# Altium integrated library Microchip PIC24F.IntLib: 529 symbols (part 6 of 32)
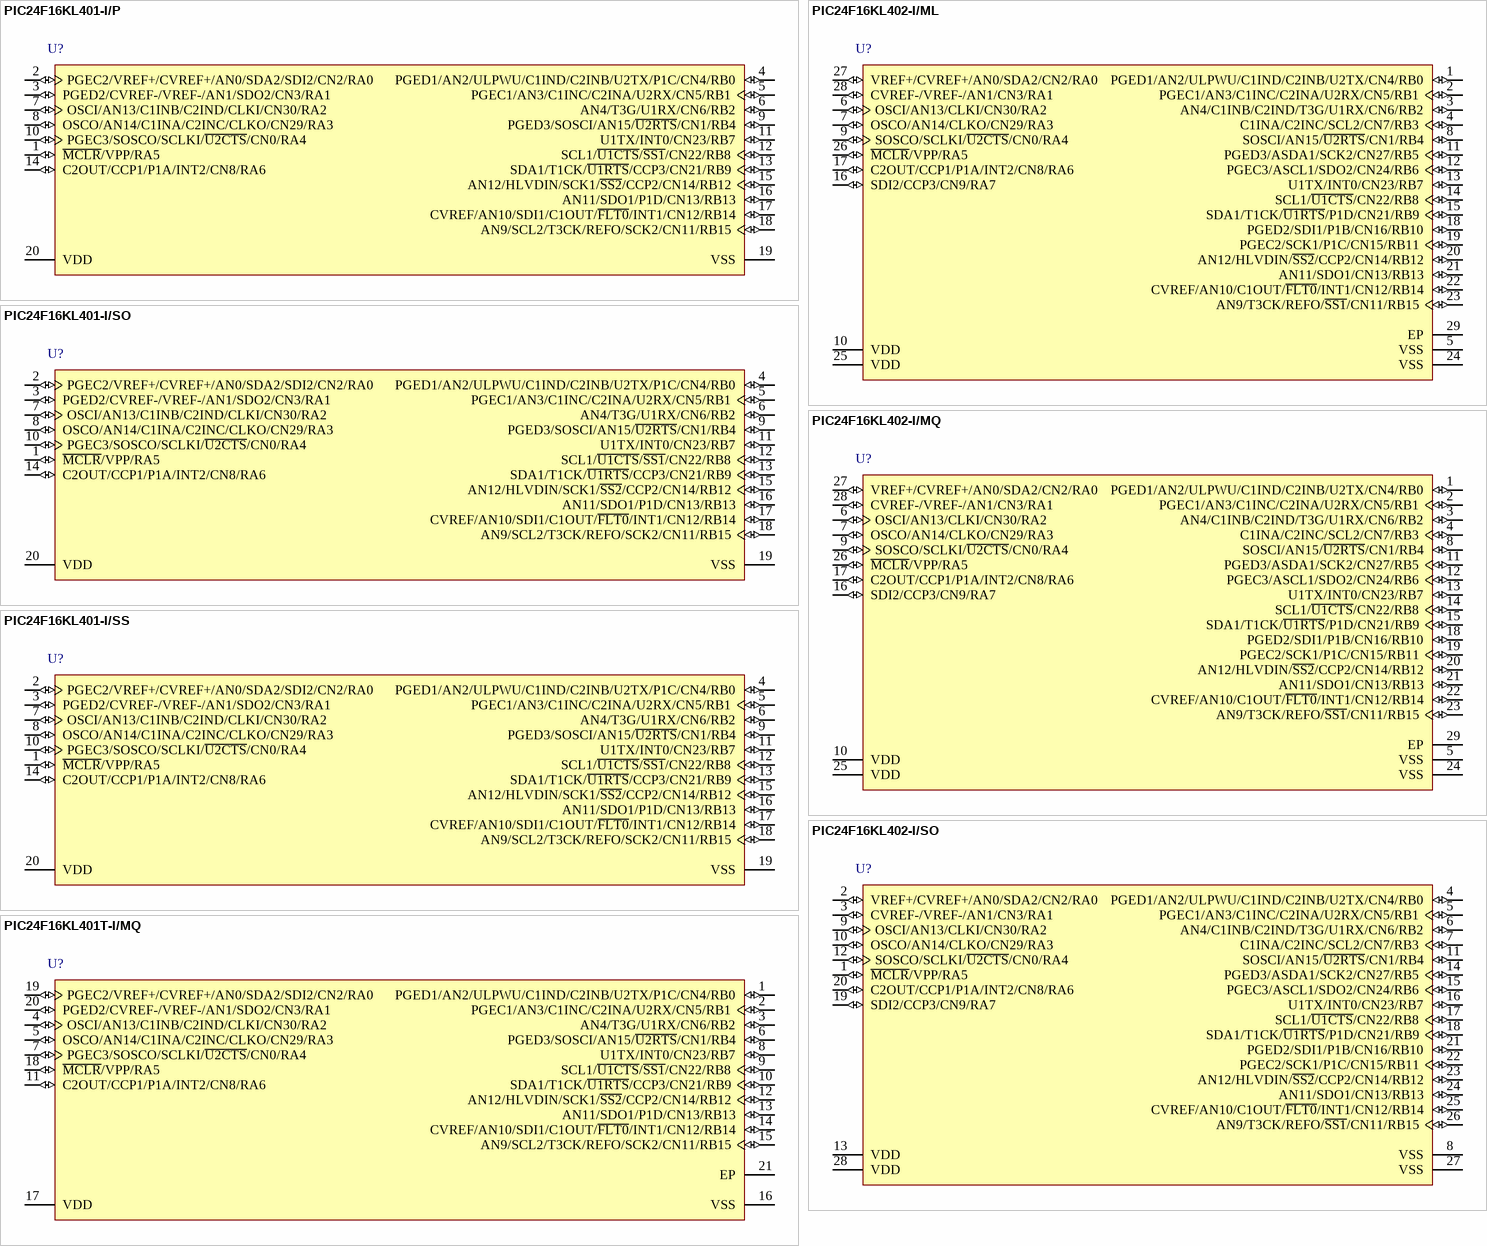
[diagram p127: symbols PIC24F16KL401-I/P to PIC24F16KL402-I/SO]

## PIC24F16KL401-I/SS
designator U?
Low-Cost General Purpose 16-Bit Flash Microcontroller with nanoWatt XLP Technology, 16 MIPS, 18 I/O, -40 to 85 degC, 20-pin SSOP (SS20), Tube; Manufacturer: Microchip; PartNumber: PIC24F16KL401-I/SS; DatasheetVersion: Rev. B; PackageVersion: C04-072B; PackageReference: SSOP-SS20; PackageDescription: 20-Lead Plastic Shrink Small Outline, 5.3 x 7.2 mm Body, 0.65 mm Pitch; Supplier 1: Digi-Key; Supplier Part Number 1: PIC24F16KL401-I/SS-ND; Supplier 2: Newark; Supplier Part Number 2: 64T1128; Supplier 3: Mouser; Supplier Part Number 3: 579-PIC24F16KL401ISS; Mounting Technology: Surface Mount; ComponentLink1Description: Manufacturer URL; ComponentLink1URL: http://www.microchip.com; ComponentLink2Description: Datasheet; ComponentLink2URL: http://ww1.microchip.com/downloads/en/DeviceDoc/31037b.pdf; ComponentLink3Description: Package Specification; ComponentLink3URL: http://www.microchip.com/stellent/groups/techpub_sg/documents/packagingspec/en012702.pdf; ComponentLink4Description: Product URL; ComponentLink4URL: http://www.microchip.com/PIC24F16KL401
footprint MCHP-SSOP-SS20_N (SOP, 20-Leads, Body 7.2x5.3mm, Pitch 0.65mm, IPC Medium Density)
footprint MCHP-SSOP-SS20_L (SOP, 20-Leads, Body 7.2x5.3mm, Pitch 0.65mm, IPC High Density)
footprint MCHP-SSOP-SS20_M (SOP, 20-Leads, Body 7.2x5.3mm, Pitch 0.65mm, IPC Low Density)
pins: 1 ~{MCLR}/VPP/RA5 (io), 2 PGEC2/VREF+/CVREF+/AN0/SDA2/SDI2/CN2/RA0 (io), 3 PGED2/CVREF-/VREF-/AN1/SDO2/CN3/RA1 (io), 4 PGED1/AN2/ULPWU/C1IND/C2INB/U2TX/P1C/CN4/RB0 (io), 5 PGEC1/AN3/C1INC/C2INA/U2RX/CN5/RB1 (io), 6 AN4/T3G/U1RX/CN6/RB2 (io), 7 OSCI/AN13/C1INB/C2IND/CLKI/CN30/RA2 (io), 8 OSCO/AN14/C1INA/C2INC/CLKO/CN29/RA3 (io), 9 PGED3/SOSCI/AN15/~{U2RTS}/CN1/RB4 (io), 10 PGEC3/SOSCO/SCLKI/~{U2CTS}/CN0/RA4 (io), 11 U1TX/INT0/CN23/RB7 (io), 12 SCL1/~{U1CTS}/~{SS1}/CN22/RB8 (io), 13 SDA1/T1CK/~{U1RTS}/CCP3/CN21/RB9 (io), 14 C2OUT/CCP1/P1A/INT2/CN8/RA6 (io), 15 AN12/HLVDIN/SCK1/~{SS2}/CCP2/CN14/RB12 (io), 16 AN11/SDO1/P1D/CN13/RB13 (io), 17 CVREF/AN10/SDI1/C1OUT/~{FLT0}/INT1/CN12/RB14 (io), 18 AN9/SCL2/T3CK/REFO/SCK2/CN11/RB15 (io), 19 VSS (power) "Ground Reference for Logic and I/O Pins", 20 VDD (power) "Positive Supply for Peripheral Digital Logic and I/O Pins"

## PIC24F16KL401T-I/MQ
designator U?
Low-Cost General Purpose 16-Bit Flash Microcontroller with nanoWatt XLP Technology, 16 MIPS, 18 I/O, -40 to 85 degC, 20-pin QFN (MQ20), Tape and Reel; Manufacturer: Microchip; PartNumber: PIC24F16KL401T-I/MQ; DatasheetVersion: Rev. B; PackageVersion: C04-139B; PackageReference: QFN-MQ20; PackageDescription: 20-Lead Plastic Quad Flat, No Lead Package, 5 x 5 mm Body, 0.65 mm Pitch; Supplier 1: Digi-Key; Supplier Part Number 1: PIC24F16KL401T-I/MQ-ND; Supplier 2: Mouser; Supplier Part Number 2: 579-PIC24F16K401TIMQ; Mounting Technology: Surface Mount; ComponentLink1Description: Manufacturer URL; ComponentLink1URL: http://www.microchip.com; ComponentLink2Description: Datasheet; ComponentLink2URL: http://ww1.microchip.com/downloads/en/DeviceDoc/31037b.pdf; ComponentLink3Description: Package Specification; ComponentLink3URL: http://www.microchip.com/stellent/groups/techpub_sg/documents/packagingspec/en012702.pdf; ComponentLink4Description: Product URL; ComponentLink4URL: http://www.microchip.com/PIC24F16KL401
footprint MCHP-QFN-MQ20_N (QFN, 20-Leads, Body 5x5mm, Pitch 0.65mm, Thermal Pad 3.25x3.25mm, IPC Medium Density)
footprint MCHP-QFN-MQ20_L (QFN, 20-Leads, Body 5x5mm, Pitch 0.65mm, Thermal Pad 3.25x3.25mm, IPC High Density)
footprint MCHP-QFN-MQ20_M (QFN, 20-Leads, Body 5x5mm, Pitch 0.65mm, Thermal Pad 3.25x3.25mm, IPC Low Density)
pins: 1 PGED1/AN2/ULPWU/C1IND/C2INB/U2TX/P1C/CN4/RB0 (io), 2 PGEC1/AN3/C1INC/C2INA/U2RX/CN5/RB1 (io), 3 AN4/T3G/U1RX/CN6/RB2 (io), 4 OSCI/AN13/C1INB/C2IND/CLKI/CN30/RA2 (io), 5 OSCO/AN14/C1INA/C2INC/CLKO/CN29/RA3 (io), 6 PGED3/SOSCI/AN15/~{U2RTS}/CN1/RB4 (io), 7 PGEC3/SOSCO/SCLKI/~{U2CTS}/CN0/RA4 (io), 8 U1TX/INT0/CN23/RB7 (io), 9 SCL1/~{U1CTS}/~{SS1}/CN22/RB8 (io), 10 SDA1/T1CK/~{U1RTS}/CCP3/CN21/RB9 (io), 11 C2OUT/CCP1/P1A/INT2/CN8/RA6 (io), 12 AN12/HLVDIN/SCK1/~{SS2}/CCP2/CN14/RB12 (io), 13 AN11/SDO1/P1D/CN13/RB13 (io), 14 CVREF/AN10/SDI1/C1OUT/~{FLT0}/INT1/CN12/RB14 (io), 15 AN9/SCL2/T3CK/REFO/SCK2/CN11/RB15 (io), 16 VSS (power) "Ground Reference for Logic and I/O Pins", 17 VDD (power) "Positive Supply for Peripheral Digital Logic and I/O Pins", 18 ~{MCLR}/VPP/RA5 (io), 19 PGEC2/VREF+/CVREF+/AN0/SDA2/SDI2/CN2/RA0 (io), 20 PGED2/CVREF-/VREF-/AN1/SDO2/CN3/RA1 (io), 21 EP (power) "EXPOSED PAD"

## PIC24F16KL402-I/ML
designator U?
Low-Cost General Purpose 16-Bit Flash Microcontroller with nanoWatt XLP Technology, 16 MIPS, 24 I/O, -40 to 85 degC, 28-pin QFN (ML28), Tube; Manufacturer: Microchip; PartNumber: PIC24F16KL402-I/ML; DatasheetVersion: Rev. B; PackageVersion: C04-105C; PackageReference: QFN-ML28; PackageDescription: 28-Lead Plastic Quad Flat, 6 x 6 mm Body, 0.65 mm Pitch; Supplier 1: Digi-Key; Supplier Part Number 1: PIC24F16KL402-I/ML-ND; Supplier 2: Newark; Supplier Part Number 2: 64T1132; Supplier 3: Mouser; Supplier Part Number 3: 579-PIC24F16KL402IML; Mounting Technology: Surface Mount; ComponentLink1Description: Manufacturer URL; ComponentLink1URL: http://www.microchip.com; ComponentLink2Description: Datasheet; ComponentLink2URL: http://ww1.microchip.com/downloads/en/DeviceDoc/31037b.pdf; ComponentLink3Description: Package Specification; ComponentLink3URL: http://www.microchip.com/stellent/groups/techpub_sg/documents/packagingspec/en012702.pdf; ComponentLink4Description: Product URL; ComponentLink4URL: http://www.microchip.com/PIC24F16KL402
footprint MCHP-QFN-ML28_N (QFN, 28-Leads, Body 6x6mm, Pitch 0.65mm, Thermal Pad 3.7x3.7mm, IPC Medium Density)
footprint MCHP-QFN-ML28_L (QFN, 28-Leads, Body 6x6mm, Pitch 0.65mm, Thermal Pad 3.7x3.7mm, IPC High Density)
footprint MCHP-QFN-ML28_M (QFN, 28-Leads, Body 6x6mm, Pitch 0.65mm, Thermal Pad 3.7x3.7mm, IPC Low Density)
pins: 1 PGED1/AN2/ULPWU/C1IND/C2INB/U2TX/CN4/RB0 (io), 2 PGEC1/AN3/C1INC/C2INA/U2RX/CN5/RB1 (io), 3 AN4/C1INB/C2IND/T3G/U1RX/CN6/RB2 (io), 4 C1INA/C2INC/SCL2/CN7/RB3 (io), 5 VSS (power) "Ground Reference for Logic and I/O Pins", 6 OSCI/AN13/CLKI/CN30/RA2 (io), 7 OSCO/AN14/CLKO/CN29/RA3 (io), 8 SOSCI/AN15/~{U2RTS}/CN1/RB4 (io), 9 SOSCO/SCLKI/~{U2CTS}/CN0/RA4 (io), 10 VDD (power) "Positive Supply for Peripheral Digital Logic and I/O Pins", 11 PGED3/ASDA1/SCK2/CN27/RB5 (io), 12 PGEC3/ASCL1/SDO2/CN24/RB6 (io), 13 U1TX/INT0/CN23/RB7 (io), 14 SCL1/~{U1CTS}/CN22/RB8 (io), 15 SDA1/T1CK/~{U1RTS}/P1D/CN21/RB9 (io), 16 SDI2/CCP3/CN9/RA7 (io), 17 C2OUT/CCP1/P1A/INT2/CN8/RA6 (io), 18 PGED2/SDI1/P1B/CN16/RB10 (io), 19 PGEC2/SCK1/P1C/CN15/RB11 (io), 20 AN12/HLVDIN/~{SS2}/CCP2/CN14/RB12 (io), 21 AN11/SDO1/CN13/RB13 (io), 22 CVREF/AN10/C1OUT/~{FLT0}/INT1/CN12/RB14 (io), 23 AN9/T3CK/REFO/~{SS1}/CN11/RB15 (io), 24 VSS (power) "Ground Reference for Logic and I/O Pins", 25 VDD (power) "Positive Supply for Peripheral Digital Logic and I/O Pins", 26 ~{MCLR}/VPP/RA5 (io), 27 VREF+/CVREF+/AN0/SDA2/CN2/RA0 (io), 28 CVREF-/VREF-/AN1/CN3/RA1 (io), 29 EP (power)

## PIC24F16KL402-I/MQ
designator U?
Low-Cost General Purpose 16-Bit Flash Microcontroller with nanoWatt XLP Technology, 16 MIPS, 24 I/O, -40 to 85 degC, 28-pin QFN (MQ28), Tube; Manufacturer: Microchip; PartNumber: PIC24F16KL402-I/MQ; DatasheetVersion: Rev. B; PackageVersion: C04-140B; PackageReference: QFN-MQ28; PackageDescription: 28-Lead Plastic Quad Flat, No Lead Package, 5 x 5 mm Body, 0.5 mm Pitch; Supplier 1: Digi-Key; Supplier Part Number 1: PIC24F16KL402-I/MQ-ND; Supplier 2: Newark; Supplier Part Number 2: 73T1331; Supplier 3: Mouser; Supplier Part Number 3: 579-PC24F16KL402IMQ; Mounting Technology: Surface Mount; ComponentLink1Description: Manufacturer URL; ComponentLink1URL: http://www.microchip.com; ComponentLink2Description: Datasheet; ComponentLink2URL: http://ww1.microchip.com/downloads/en/DeviceDoc/31037b.pdf; ComponentLink3Description: Package Specification; ComponentLink3URL: http://www.microchip.com/stellent/groups/techpub_sg/documents/packagingspec/en012702.pdf; ComponentLink4Description: Product URL; ComponentLink4URL: http://www.microchip.com/PIC24F16KL402
footprint MCHP-QFN-MQ28_N (QFN, 28-Leads, Body 5x5mm, Pitch 0.5mm, Thermal Pad 3.25x3.25mm, IPC Medium Density)
footprint MCHP-QFN-MQ28_L (QFN, 28-Leads, Body 5x5mm, Pitch 0.5mm, Thermal Pad 3.25x3.25mm, IPC High Density)
footprint MCHP-QFN-MQ28_M (QFN, 28-Leads, Body 5x5mm, Pitch 0.5mm, Thermal Pad 3.25x3.25mm, IPC Low Density)
pins: 1 PGED1/AN2/ULPWU/C1IND/C2INB/U2TX/CN4/RB0 (io), 2 PGEC1/AN3/C1INC/C2INA/U2RX/CN5/RB1 (io), 3 AN4/C1INB/C2IND/T3G/U1RX/CN6/RB2 (io), 4 C1INA/C2INC/SCL2/CN7/RB3 (io), 5 VSS (power) "Ground Reference for Logic and I/O Pins", 6 OSCI/AN13/CLKI/CN30/RA2 (io), 7 OSCO/AN14/CLKO/CN29/RA3 (io), 8 SOSCI/AN15/~{U2RTS}/CN1/RB4 (io), 9 SOSCO/SCLKI/~{U2CTS}/CN0/RA4 (io), 10 VDD (power) "Positive Supply for Peripheral Digital Logic and I/O Pins", 11 PGED3/ASDA1/SCK2/CN27/RB5 (io), 12 PGEC3/ASCL1/SDO2/CN24/RB6 (io), 13 U1TX/INT0/CN23/RB7 (io), 14 SCL1/~{U1CTS}/CN22/RB8 (io), 15 SDA1/T1CK/~{U1RTS}/P1D/CN21/RB9 (io), 16 SDI2/CCP3/CN9/RA7 (io), 17 C2OUT/CCP1/P1A/INT2/CN8/RA6 (io), 18 PGED2/SDI1/P1B/CN16/RB10 (io), 19 PGEC2/SCK1/P1C/CN15/RB11 (io), 20 AN12/HLVDIN/~{SS2}/CCP2/CN14/RB12 (io), 21 AN11/SDO1/CN13/RB13 (io), 22 CVREF/AN10/C1OUT/~{FLT0}/INT1/CN12/RB14 (io), 23 AN9/T3CK/REFO/~{SS1}/CN11/RB15 (io), 24 VSS (power) "Ground Reference for Logic and I/O Pins", 25 VDD (power) "Positive Supply for Peripheral Digital Logic and I/O Pins", 26 ~{MCLR}/VPP/RA5 (io), 27 VREF+/CVREF+/AN0/SDA2/CN2/RA0 (io), 28 CVREF-/VREF-/AN1/CN3/RA1 (io), 29 EP (power)

## PIC24F16KL402-I/SO
designator U?
Low-Cost General Purpose 16-Bit Flash Microcontroller with nanoWatt XLP Technology, 16 MIPS, 24 I/O, -40 to 85 degC, 28-pin SOIC (SO28), Tube; Manufacturer: Microchip; PartNumber: PIC24F16KL402-I/SO; DatasheetVersion: Rev. B; PackageVersion: C04-052C; PackageReference: SOIC-SO28; PackageDescription: 28-Lead Plastic Small Outline, 17.9 x 7.5 mm Body, 1.27 mm Pitch; Supplier 1: Digi-Key; Supplier Part Number 1: PIC24F16KL402-I/SO-ND; Supplier 2: Farnell; Supplier Part Number 2: 2079402; Supplier 3: Newark; Supplier Part Number 3: 64T1133; Supplier 4: Mouser; Supplier Part Number 4: 579-PIC24F16KL402ISO; Mounting Technology: Surface Mount; ComponentLink1Description: Manufacturer URL; ComponentLink1URL: http://www.microchip.com; ComponentLink2Description: Datasheet; ComponentLink2URL: http://ww1.microchip.com/downloads/en/DeviceDoc/31037b.pdf; ComponentLink3Description: Package Specification; ComponentLink3URL: http://www.microchip.com/stellent/groups/techpub_sg/documents/packagingspec/en012702.pdf; ComponentLink4Description: Product URL; ComponentLink4URL: http://www.microchip.com/PIC24F16KL402
footprint MCHP-SOIC-SO28_N (SOIC, 28-Leads, Body 17.9x7.5mm, Pitch 1.27mm, IPC Medium Density)
footprint MCHP-SOIC-SO28_L (SOIC, 28-Leads, Body 17.9x7.5mm, Pitch 1.27mm, IPC High Density)
footprint MCHP-SOIC-SO28_M (SOIC, 28-Leads, Body 17.9x7.5mm, Pitch 1.27mm, IPC Low Density)
pins: 1 ~{MCLR}/VPP/RA5 (io), 2 VREF+/CVREF+/AN0/SDA2/CN2/RA0 (io), 3 CVREF-/VREF-/AN1/CN3/RA1 (io), 4 PGED1/AN2/ULPWU/C1IND/C2INB/U2TX/CN4/RB0 (io), 5 PGEC1/AN3/C1INC/C2INA/U2RX/CN5/RB1 (io), 6 AN4/C1INB/C2IND/T3G/U1RX/CN6/RB2 (io), 7 C1INA/C2INC/SCL2/CN7/RB3 (io), 8 VSS (power) "Ground Reference for Logic and I/O Pins", 9 OSCI/AN13/CLKI/CN30/RA2 (io), 10 OSCO/AN14/CLKO/CN29/RA3 (io), 11 SOSCI/AN15/~{U2RTS}/CN1/RB4 (io), 12 SOSCO/SCLKI/~{U2CTS}/CN0/RA4 (io), 13 VDD (power) "Positive Supply for Peripheral Digital Logic and I/O Pins", 14 PGED3/ASDA1/SCK2/CN27/RB5 (io), 15 PGEC3/ASCL1/SDO2/CN24/RB6 (io), 16 U1TX/INT0/CN23/RB7 (io), 17 SCL1/~{U1CTS}/CN22/RB8 (io), 18 SDA1/T1CK/~{U1RTS}/P1D/CN21/RB9 (io), 19 SDI2/CCP3/CN9/RA7 (io), 20 C2OUT/CCP1/P1A/INT2/CN8/RA6 (io), 21 PGED2/SDI1/P1B/CN16/RB10 (io), 22 PGEC2/SCK1/P1C/CN15/RB11 (io), 23 AN12/HLVDIN/~{SS2}/CCP2/CN14/RB12 (io), 24 AN11/SDO1/CN13/RB13 (io), 25 CVREF/AN10/C1OUT/~{FLT0}/INT1/CN12/RB14 (io), 26 AN9/T3CK/REFO/~{SS1}/CN11/RB15 (io), 27 VSS (power) "Ground Reference for Logic and I/O Pins", 28 VDD (power) "Positive Supply for Peripheral Digital Logic and I/O Pins"

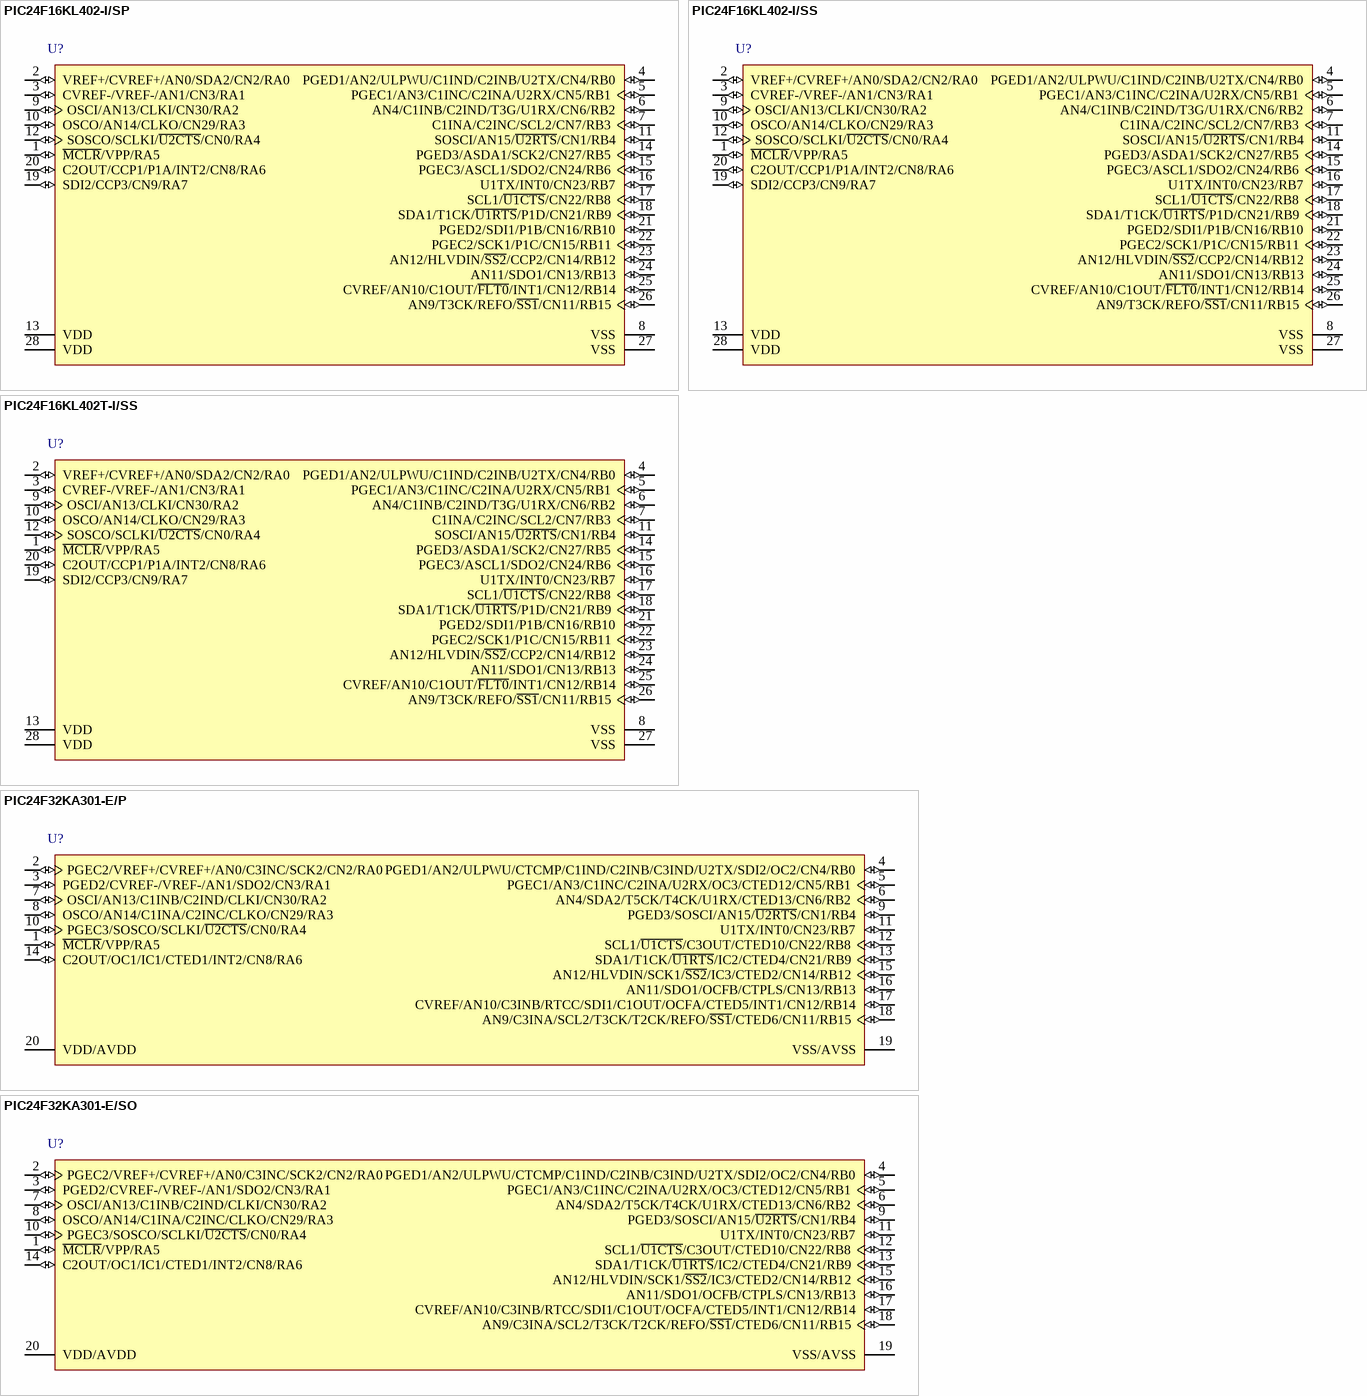
[diagram p16: symbols PIC24F16KL402-I/SP to PIC24F32KA301-E/SO]

## PIC24F16KL402-I/SP
designator U?
Low-Cost General Purpose 16-Bit Flash Microcontroller with nanoWatt XLP Technology, 16 MIPS, 24 I/O, -40 to 85 degC, 28-pin SPDIP (SP28), Tube; Manufacturer: Microchip; PartNumber: PIC24F16KL402-I/SP; DatasheetVersion: Rev. B; PackageVersion: C04-070B; PackageReference: SPDIP-SP28; PackageDescription: 28-Lead Plastic Dual In-Line, 34.86 x 6.79 mm Body, 2.54 mm Pitch; Supplier 1: Digi-Key; Supplier Part Number 1: PIC24F16KL402-I/SP-ND; Supplier 2: Farnell; Supplier Part Number 2: 2079403; Supplier 3: Newark; Supplier Part Number 3: 64T1134; Supplier 4: Mouser; Supplier Part Number 4: 579-PIC24F16KL402ISP; Mounting Technology: Through Hole; ComponentLink1Description: Manufacturer URL; ComponentLink1URL: http://www.microchip.com; ComponentLink2Description: Datasheet; ComponentLink2URL: http://ww1.microchip.com/downloads/en/DeviceDoc/31037b.pdf; ComponentLink3Description: Package Specification; ComponentLink3URL: http://www.microchip.com/stellent/groups/techpub_sg/documents/packagingspec/en012702.pdf; ComponentLink4Description: Product URL; ComponentLink4URL: http://www.microchip.com/PIC24F16KL402
footprint MCHP-SPDIP-SP28 (DIP, 28-Leads, Body 34.86x6.79mm, Pitch 2.54mm)
pins: 1 ~{MCLR}/VPP/RA5 (io), 2 VREF+/CVREF+/AN0/SDA2/CN2/RA0 (io), 3 CVREF-/VREF-/AN1/CN3/RA1 (io), 4 PGED1/AN2/ULPWU/C1IND/C2INB/U2TX/CN4/RB0 (io), 5 PGEC1/AN3/C1INC/C2INA/U2RX/CN5/RB1 (io), 6 AN4/C1INB/C2IND/T3G/U1RX/CN6/RB2 (io), 7 C1INA/C2INC/SCL2/CN7/RB3 (io), 8 VSS (power) "Ground Reference for Logic and I/O Pins", 9 OSCI/AN13/CLKI/CN30/RA2 (io), 10 OSCO/AN14/CLKO/CN29/RA3 (io), 11 SOSCI/AN15/~{U2RTS}/CN1/RB4 (io), 12 SOSCO/SCLKI/~{U2CTS}/CN0/RA4 (io), 13 VDD (power) "Positive Supply for Peripheral Digital Logic and I/O Pins", 14 PGED3/ASDA1/SCK2/CN27/RB5 (io), 15 PGEC3/ASCL1/SDO2/CN24/RB6 (io), 16 U1TX/INT0/CN23/RB7 (io), 17 SCL1/~{U1CTS}/CN22/RB8 (io), 18 SDA1/T1CK/~{U1RTS}/P1D/CN21/RB9 (io), 19 SDI2/CCP3/CN9/RA7 (io), 20 C2OUT/CCP1/P1A/INT2/CN8/RA6 (io), 21 PGED2/SDI1/P1B/CN16/RB10 (io), 22 PGEC2/SCK1/P1C/CN15/RB11 (io), 23 AN12/HLVDIN/~{SS2}/CCP2/CN14/RB12 (io), 24 AN11/SDO1/CN13/RB13 (io), 25 CVREF/AN10/C1OUT/~{FLT0}/INT1/CN12/RB14 (io), 26 AN9/T3CK/REFO/~{SS1}/CN11/RB15 (io), 27 VSS (power) "Ground Reference for Logic and I/O Pins", 28 VDD (power) "Positive Supply for Peripheral Digital Logic and I/O Pins"

## PIC24F16KL402-I/SS
designator U?
Low-Cost General Purpose 16-Bit Flash Microcontroller with nanoWatt XLP Technology, 16 MIPS, 24 I/O, -40 to 85 degC, 28-pin SSOP (SS28), Tube; Manufacturer: Microchip; PartNumber: PIC24F16KL402-I/SS; DatasheetVersion: Rev. B; PackageVersion: C04-073B; PackageReference: SSOP-SS28; PackageDescription: 28-Lead Plastic Shrink Small Outline, 10.2 x 5.3 mm Body, 0.65 mm Pitch; Supplier 1: Digi-Key; Supplier Part Number 1: PIC24F16KL402-I/SS-ND; Supplier 2: Farnell; Supplier Part Number 2: 2079404; Supplier 3: Newark; Supplier Part Number 3: 64T1135; Supplier 4: Mouser; Supplier Part Number 4: 579-PIC24F16KL402ISS; Mounting Technology: Surface Mount; ComponentLink1Description: Manufacturer URL; ComponentLink1URL: http://www.microchip.com; ComponentLink2Description: Datasheet; ComponentLink2URL: http://ww1.microchip.com/downloads/en/DeviceDoc/31037b.pdf; ComponentLink3Description: Package Specification; ComponentLink3URL: http://www.microchip.com/stellent/groups/techpub_sg/documents/packagingspec/en012702.pdf; ComponentLink4Description: Product URL; ComponentLink4URL: http://www.microchip.com/PIC24F16KL402
footprint MCHP-SSOP-SS28_N (SOP, 28-Leads, Body 10.2x5.3mm, Pitch 0.65mm, IPC Medium Density)
footprint MCHP-SSOP-SS28_L (SOP, 28-Leads, Body 10.2x5.3mm, Pitch 0.65mm, IPC High Density)
footprint MCHP-SSOP-SS28_M (SOP, 28-Leads, Body 10.2x5.3mm, Pitch 0.65mm, IPC Low Density)
pins: 1 ~{MCLR}/VPP/RA5 (io), 2 VREF+/CVREF+/AN0/SDA2/CN2/RA0 (io), 3 CVREF-/VREF-/AN1/CN3/RA1 (io), 4 PGED1/AN2/ULPWU/C1IND/C2INB/U2TX/CN4/RB0 (io), 5 PGEC1/AN3/C1INC/C2INA/U2RX/CN5/RB1 (io), 6 AN4/C1INB/C2IND/T3G/U1RX/CN6/RB2 (io), 7 C1INA/C2INC/SCL2/CN7/RB3 (io), 8 VSS (power) "Ground Reference for Logic and I/O Pins", 9 OSCI/AN13/CLKI/CN30/RA2 (io), 10 OSCO/AN14/CLKO/CN29/RA3 (io), 11 SOSCI/AN15/~{U2RTS}/CN1/RB4 (io), 12 SOSCO/SCLKI/~{U2CTS}/CN0/RA4 (io), 13 VDD (power) "Positive Supply for Peripheral Digital Logic and I/O Pins", 14 PGED3/ASDA1/SCK2/CN27/RB5 (io), 15 PGEC3/ASCL1/SDO2/CN24/RB6 (io), 16 U1TX/INT0/CN23/RB7 (io), 17 SCL1/~{U1CTS}/CN22/RB8 (io), 18 SDA1/T1CK/~{U1RTS}/P1D/CN21/RB9 (io), 19 SDI2/CCP3/CN9/RA7 (io), 20 C2OUT/CCP1/P1A/INT2/CN8/RA6 (io), 21 PGED2/SDI1/P1B/CN16/RB10 (io), 22 PGEC2/SCK1/P1C/CN15/RB11 (io), 23 AN12/HLVDIN/~{SS2}/CCP2/CN14/RB12 (io), 24 AN11/SDO1/CN13/RB13 (io), 25 CVREF/AN10/C1OUT/~{FLT0}/INT1/CN12/RB14 (io), 26 AN9/T3CK/REFO/~{SS1}/CN11/RB15 (io), 27 VSS (power) "Ground Reference for Logic and I/O Pins", 28 VDD (power) "Positive Supply for Peripheral Digital Logic and I/O Pins"

## PIC24F16KL402T-I/SS
designator U?
Low-Cost General Purpose 16-Bit Flash Microcontroller with nanoWatt XLP Technology, 16 MIPS, 24 I/O, -40 to 85 degC, 28-pin SSOP (SS28), Tape and Reel; Manufacturer: Microchip; PartNumber: PIC24F16KL402T-I/SS; DatasheetVersion: Rev. B; PackageVersion: C04-073B; PackageReference: SSOP-SS28; PackageDescription: 28-Lead Plastic Shrink Small Outline, 10.2 x 5.3 mm Body, 0.65 mm Pitch; Supplier 1: Digi-Key; Supplier Part Number 1: PIC24F16KL402T-I/SS-ND; Supplier 2: Mouser; Supplier Part Number 2: 579-PIC24F16K402TISS; Mounting Technology: Surface Mount; ComponentLink1Description: Manufacturer URL; ComponentLink1URL: http://www.microchip.com; ComponentLink2Description: Datasheet; ComponentLink2URL: http://ww1.microchip.com/downloads/en/DeviceDoc/31037b.pdf; ComponentLink3Description: Package Specification; ComponentLink3URL: http://www.microchip.com/stellent/groups/techpub_sg/documents/packagingspec/en012702.pdf; ComponentLink4Description: Product URL; ComponentLink4URL: http://www.microchip.com/PIC24F16KL402
footprint MCHP-SSOP-SS28_N (SOP, 28-Leads, Body 10.2x5.3mm, Pitch 0.65mm, IPC Medium Density)
footprint MCHP-SSOP-SS28_L (SOP, 28-Leads, Body 10.2x5.3mm, Pitch 0.65mm, IPC High Density)
footprint MCHP-SSOP-SS28_M (SOP, 28-Leads, Body 10.2x5.3mm, Pitch 0.65mm, IPC Low Density)
pins: 1 ~{MCLR}/VPP/RA5 (io), 2 VREF+/CVREF+/AN0/SDA2/CN2/RA0 (io), 3 CVREF-/VREF-/AN1/CN3/RA1 (io), 4 PGED1/AN2/ULPWU/C1IND/C2INB/U2TX/CN4/RB0 (io), 5 PGEC1/AN3/C1INC/C2INA/U2RX/CN5/RB1 (io), 6 AN4/C1INB/C2IND/T3G/U1RX/CN6/RB2 (io), 7 C1INA/C2INC/SCL2/CN7/RB3 (io), 8 VSS (power) "Ground Reference for Logic and I/O Pins", 9 OSCI/AN13/CLKI/CN30/RA2 (io), 10 OSCO/AN14/CLKO/CN29/RA3 (io), 11 SOSCI/AN15/~{U2RTS}/CN1/RB4 (io), 12 SOSCO/SCLKI/~{U2CTS}/CN0/RA4 (io), 13 VDD (power) "Positive Supply for Peripheral Digital Logic and I/O Pins", 14 PGED3/ASDA1/SCK2/CN27/RB5 (io), 15 PGEC3/ASCL1/SDO2/CN24/RB6 (io), 16 U1TX/INT0/CN23/RB7 (io), 17 SCL1/~{U1CTS}/CN22/RB8 (io), 18 SDA1/T1CK/~{U1RTS}/P1D/CN21/RB9 (io), 19 SDI2/CCP3/CN9/RA7 (io), 20 C2OUT/CCP1/P1A/INT2/CN8/RA6 (io), 21 PGED2/SDI1/P1B/CN16/RB10 (io), 22 PGEC2/SCK1/P1C/CN15/RB11 (io), 23 AN12/HLVDIN/~{SS2}/CCP2/CN14/RB12 (io), 24 AN11/SDO1/CN13/RB13 (io), 25 CVREF/AN10/C1OUT/~{FLT0}/INT1/CN12/RB14 (io), 26 AN9/T3CK/REFO/~{SS1}/CN11/RB15 (io), 27 VSS (power) "Ground Reference for Logic and I/O Pins", 28 VDD (power) "Positive Supply for Peripheral Digital Logic and I/O Pins"

## PIC24F32KA301-E/P
designator U?
General Purpose, 16-Bit Flash Microcontroller with XLP Technology, 16 MIPS, 18 I/O, -40 to 125 degC, 20-pin PDIP (P20), Tube; Manufacturer: Microchip; PartNumber: PIC24F32KA301-E/P; DatasheetVersion: Rev. C; PackageVersion: C04-019B; PackageReference: PDIP-P20; PackageDescription: 20-Pin Plastic Dual In-Line, Row Spacing 7.62 mm, 25.91 x 6.6 mm Body, 2.54 mm Pitch; Supplier 1: Digi-Key; Supplier Part Number 1: PIC24F32KA301-E/P-ND; Supplier 2: Mouser; Supplier Part Number 2: 579-PIC24F32KA301E/P; Mounting Technology: Through Hole; ComponentLink1Description: Manufacturer URL; ComponentLink1URL: http://www.microchip.com; ComponentLink2Description: Datasheet; ComponentLink2URL: http://ww1.microchip.com/downloads/en/DeviceDoc/39995c.pdf; ComponentLink3Description: Package Specification; ComponentLink3URL: http://www.microchip.com/stellent/groups/techpub_sg/documents/packagingspec/en012702.pdf; ComponentLink4Description: Product URL; ComponentLink4URL: http://www.microchip.com/PIC24F32KA301
footprint MCHP-PDIP-P20 (DIP, 20-Leads, Body 25.91x6.6mm, Pitch 2.54mm)
pins: 1 ~{MCLR}/VPP/RA5 (io), 2 PGEC2/VREF+/CVREF+/AN0/C3INC/SCK2/CN2/RA0 (io), 3 PGED2/CVREF-/VREF-/AN1/SDO2/CN3/RA1 (io), 4 PGED1/AN2/ULPWU/CTCMP/C1IND/C2INB/C3IND/U2TX/SDI2/OC2/CN4/RB0 (io), 5 PGEC1/AN3/C1INC/C2INA/U2RX/OC3/CTED12/CN5/RB1 (io), 6 AN4/SDA2/T5CK/T4CK/U1RX/CTED13/CN6/RB2 (io), 7 OSCI/AN13/C1INB/C2IND/CLKI/CN30/RA2 (io), 8 OSCO/AN14/C1INA/C2INC/CLKO/CN29/RA3 (io), 9 PGED3/SOSCI/AN15/~{U2RTS}/CN1/RB4 (io), 10 PGEC3/SOSCO/SCLKI/~{U2CTS}/CN0/RA4 (io), 11 U1TX/INT0/CN23/RB7 (io), 12 SCL1/~{U1CTS}/C3OUT/CTED10/CN22/RB8 (io), 13 SDA1/T1CK/~{U1RTS}/IC2/CTED4/CN21/RB9 (io), 14 C2OUT/OC1/IC1/CTED1/INT2/CN8/RA6 (io), 15 AN12/HLVDIN/SCK1/~{SS2}/IC3/CTED2/CN14/RB12 (io), 16 AN11/SDO1/OCFB/CTPLS/CN13/RB13 (io), 17 CVREF/AN10/C3INB/RTCC/SDI1/C1OUT/OCFA/CTED5/INT1/CN12/RB14 (io), 18 AN9/C3INA/SCL2/T3CK/T2CK/REFO/~{SS1}/CTED6/CN11/RB15 (io), 19 VSS/AVSS (power), 20 VDD/AVDD (power)

## PIC24F32KA301-E/SO
designator U?
General Purpose, 16-Bit Flash Microcontroller with XLP Technology, 16 MIPS, 18 I/O, -40 to 125 degC, 20-pin SOIC (SO20), Tube; Manufacturer: Microchip; PartNumber: PIC24F32KA301-E/SO; DatasheetVersion: Rev. C; PackageVersion: C04-094C; PackageReference: SOIC-SO20; PackageDescription: 20-Lead Plastic Small Outline, 7.5 x 12.8 mm Body, 1.27 mm Pitch; Supplier 1: Digi-Key; Supplier Part Number 1: PIC24F32KA301-E/SO-ND; Supplier 2: Mouser; Supplier Part Number 2: 579-PIC24F32KA301ESO; Mounting Technology: Surface Mount; ComponentLink1Description: Manufacturer URL; ComponentLink1URL: http://www.microchip.com; ComponentLink2Description: Datasheet; ComponentLink2URL: http://ww1.microchip.com/downloads/en/DeviceDoc/39995c.pdf; ComponentLink3Description: Package Specification; ComponentLink3URL: http://www.microchip.com/stellent/groups/techpub_sg/documents/packagingspec/en012702.pdf; ComponentLink4Description: Product URL; ComponentLink4URL: http://www.microchip.com/PIC24F32KA301
footprint MCHP-SOIC-SO20_N (SOIC, 20-Leads, Body 12.8x7.5mm, Pitch 1.27mm, , IPC Medium Density)
footprint MCHP-SOIC-SO20_L (SOIC, 20-Leads, Body 12.8x7.5mm, Pitch 1.27mm, , IPC High Density)
footprint MCHP-SOIC-SO20_M (SOIC, 20-Leads, Body 12.8x7.5mm, Pitch 1.27mm, , IPC Low Density)
pins: 1 ~{MCLR}/VPP/RA5 (io), 2 PGEC2/VREF+/CVREF+/AN0/C3INC/SCK2/CN2/RA0 (io), 3 PGED2/CVREF-/VREF-/AN1/SDO2/CN3/RA1 (io), 4 PGED1/AN2/ULPWU/CTCMP/C1IND/C2INB/C3IND/U2TX/SDI2/OC2/CN4/RB0 (io), 5 PGEC1/AN3/C1INC/C2INA/U2RX/OC3/CTED12/CN5/RB1 (io), 6 AN4/SDA2/T5CK/T4CK/U1RX/CTED13/CN6/RB2 (io), 7 OSCI/AN13/C1INB/C2IND/CLKI/CN30/RA2 (io), 8 OSCO/AN14/C1INA/C2INC/CLKO/CN29/RA3 (io), 9 PGED3/SOSCI/AN15/~{U2RTS}/CN1/RB4 (io), 10 PGEC3/SOSCO/SCLKI/~{U2CTS}/CN0/RA4 (io), 11 U1TX/INT0/CN23/RB7 (io), 12 SCL1/~{U1CTS}/C3OUT/CTED10/CN22/RB8 (io), 13 SDA1/T1CK/~{U1RTS}/IC2/CTED4/CN21/RB9 (io), 14 C2OUT/OC1/IC1/CTED1/INT2/CN8/RA6 (io), 15 AN12/HLVDIN/SCK1/~{SS2}/IC3/CTED2/CN14/RB12 (io), 16 AN11/SDO1/OCFB/CTPLS/CN13/RB13 (io), 17 CVREF/AN10/C3INB/RTCC/SDI1/C1OUT/OCFA/CTED5/INT1/CN12/RB14 (io), 18 AN9/C3INA/SCL2/T3CK/T2CK/REFO/~{SS1}/CTED6/CN11/RB15 (io), 19 VSS/AVSS (power), 20 VDD/AVDD (power)

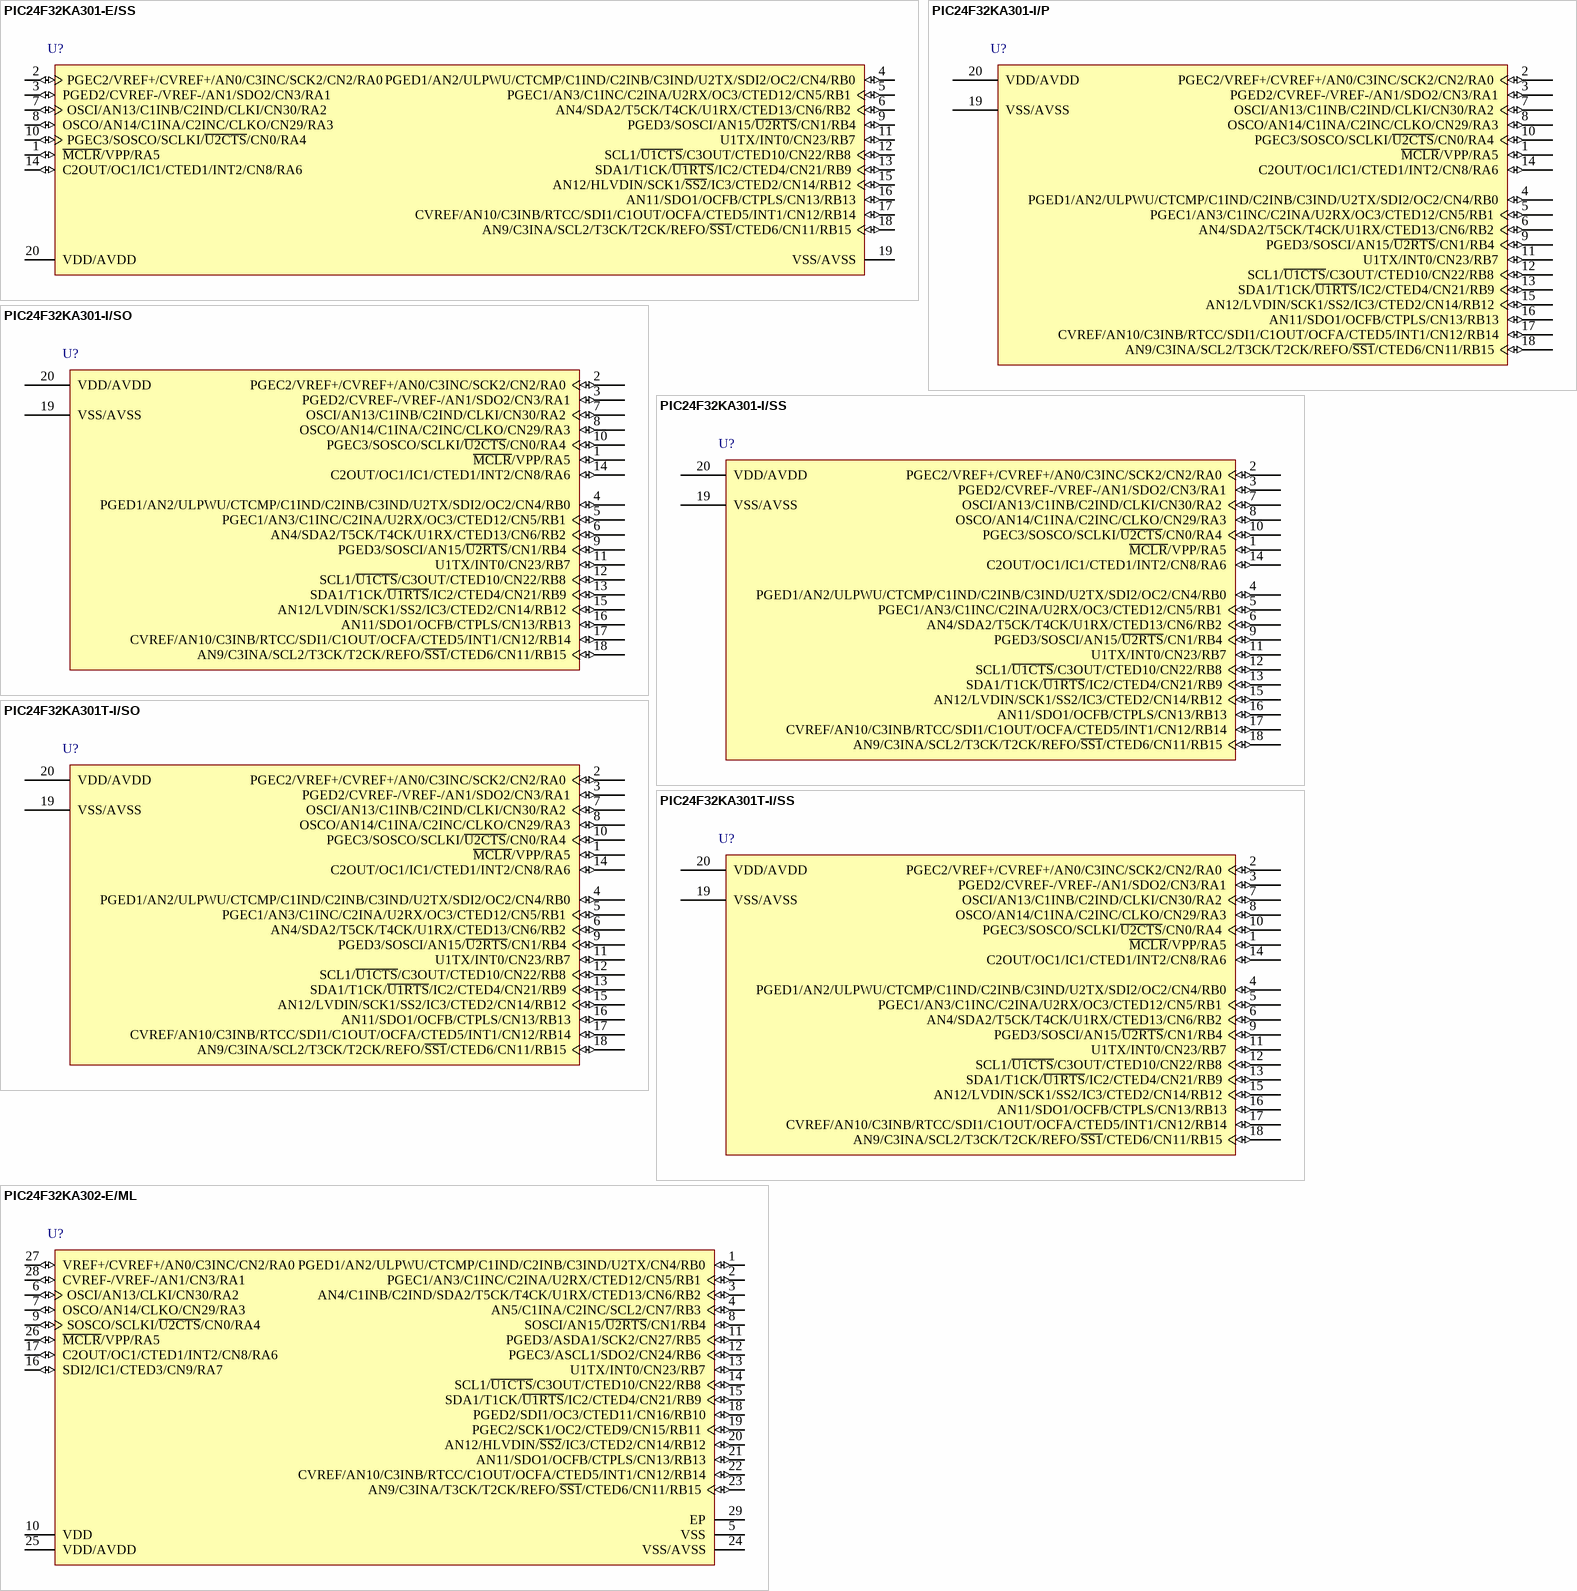
[diagram p17: symbols PIC24F32KA301-E/SS to PIC24F32KA302-E/ML]

## PIC24F32KA301-E/SS
designator U?
General Purpose, 16-Bit Flash Microcontroller with XLP Technology, 16 MIPS, 18 I/O, -40 to 125 degC, 20-pin SSOP (SS20), Tube; Manufacturer: Microchip; PartNumber: PIC24F32KA301-E/SS; DatasheetVersion: Rev. C; PackageVersion: C04-072B; PackageReference: SSOP-SS20; PackageDescription: 20-Lead Plastic Shrink Small Outline, 5.3 x 7.2 mm Body, 0.65 mm Pitch; Supplier 1: Digi-Key; Supplier Part Number 1: PIC24F32KA301-E/SS-ND; Supplier 2: Mouser; Supplier Part Number 2: 579-PIC24F32KA301ESS; Mounting Technology: Surface Mount; ComponentLink1Description: Manufacturer URL; ComponentLink1URL: http://www.microchip.com; ComponentLink2Description: Datasheet; ComponentLink2URL: http://ww1.microchip.com/downloads/en/DeviceDoc/39995c.pdf; ComponentLink3Description: Package Specification; ComponentLink3URL: http://www.microchip.com/stellent/groups/techpub_sg/documents/packagingspec/en012702.pdf; ComponentLink4Description: Product URL; ComponentLink4URL: http://www.microchip.com/PIC24F32KA301
footprint MCHP-SSOP-SS20_N (SOP, 20-Leads, Body 7.2x5.3mm, Pitch 0.65mm, IPC Medium Density)
footprint MCHP-SSOP-SS20_L (SOP, 20-Leads, Body 7.2x5.3mm, Pitch 0.65mm, IPC High Density)
footprint MCHP-SSOP-SS20_M (SOP, 20-Leads, Body 7.2x5.3mm, Pitch 0.65mm, IPC Low Density)
pins: 1 ~{MCLR}/VPP/RA5 (io), 2 PGEC2/VREF+/CVREF+/AN0/C3INC/SCK2/CN2/RA0 (io), 3 PGED2/CVREF-/VREF-/AN1/SDO2/CN3/RA1 (io), 4 PGED1/AN2/ULPWU/CTCMP/C1IND/C2INB/C3IND/U2TX/SDI2/OC2/CN4/RB0 (io), 5 PGEC1/AN3/C1INC/C2INA/U2RX/OC3/CTED12/CN5/RB1 (io), 6 AN4/SDA2/T5CK/T4CK/U1RX/CTED13/CN6/RB2 (io), 7 OSCI/AN13/C1INB/C2IND/CLKI/CN30/RA2 (io), 8 OSCO/AN14/C1INA/C2INC/CLKO/CN29/RA3 (io), 9 PGED3/SOSCI/AN15/~{U2RTS}/CN1/RB4 (io), 10 PGEC3/SOSCO/SCLKI/~{U2CTS}/CN0/RA4 (io), 11 U1TX/INT0/CN23/RB7 (io), 12 SCL1/~{U1CTS}/C3OUT/CTED10/CN22/RB8 (io), 13 SDA1/T1CK/~{U1RTS}/IC2/CTED4/CN21/RB9 (io), 14 C2OUT/OC1/IC1/CTED1/INT2/CN8/RA6 (io), 15 AN12/HLVDIN/SCK1/~{SS2}/IC3/CTED2/CN14/RB12 (io), 16 AN11/SDO1/OCFB/CTPLS/CN13/RB13 (io), 17 CVREF/AN10/C3INB/RTCC/SDI1/C1OUT/OCFA/CTED5/INT1/CN12/RB14 (io), 18 AN9/C3INA/SCL2/T3CK/T2CK/REFO/~{SS1}/CTED6/CN11/RB15 (io), 19 VSS/AVSS (power), 20 VDD/AVDD (power)

## PIC24F32KA301-I/P
designator U?
16-Bit Flash Microcontroller with XLP Technology, 32KB Flash, 2KB SRAM, 20-Pin PDIP, Industrial Temperature; Manufacturer: Microchip; PartNumber: PIC24F32KA301-I/P; DatasheetVersion: revB, Apr-2011; PackageVersion: revBB, Aug-2009; PackageReference: PDIP300-P20; PackageDescription: 20-Lead Plastic Dual In-Line (P) - 300 mil Body [PDIP]; Supplier 1: Digi-Key; Supplier Part Number 1: PIC24F32KA301-I/P-ND; Supplier 2: Mouser; Supplier Part Number 2: 579-PIC24F32KA301IP; Mounting Technology: Through Hole; ComponentLink1Description: Manufacturer URL; ComponentLink1URL: http://www.microchip.com/; ComponentLink2Description: Datasheet; ComponentLink2URL: http://ww1.microchip.com/downloads/en/DeviceDoc/39995_b.pdf; ComponentLink3Description: Package Specification; ComponentLink3URL: http://www.microchip.com/stellent/groups/techpub_sg/documents/packagingspec/en012702.pdf
footprint PDIP300-P20 (DIP, 20-Leads, Row Spacing 7.62mm, Pitch 2.54mm, Body 25.9x6.6mm)
pins: 1 ~{MCLR}/VPP/RA5 (io), 2 PGEC2/VREF+/CVREF+/AN0/C3INC/SCK2/CN2/RA0 (io), 3 PGED2/CVREF-/VREF-/AN1/SDO2/CN3/RA1 (io), 4 PGED1/AN2/ULPWU/CTCMP/C1IND/C2INB/C3IND/U2TX/SDI2/OC2/CN4/RB0 (io), 5 PGEC1/AN3/C1INC/C2INA/U2RX/OC3/CTED12/CN5/RB1 (io), 6 AN4/SDA2/T5CK/T4CK/U1RX/CTED13/CN6/RB2 (io), 7 OSCI/AN13/C1INB/C2IND/CLKI/CN30/RA2 (io), 8 OSCO/AN14/C1INA/C2INC/CLKO/CN29/RA3 (io), 9 PGED3/SOSCI/AN15/~{U2RTS}/CN1/RB4 (io), 10 PGEC3/SOSCO/SCLKI/~{U2CTS}/CN0/RA4 (io), 11 U1TX/INT0/CN23/RB7 (io), 12 SCL1/~{U1CTS}/C3OUT/CTED10/CN22/RB8 (io), 13 SDA1/T1CK/~{U1RTS}/IC2/CTED4/CN21/RB9 (io), 14 C2OUT/OC1/IC1/CTED1/INT2/CN8/RA6 (io), 15 AN12/LVDIN/SCK1/SS2/IC3/CTED2/CN14/RB12 (io), 16 AN11/SDO1/OCFB/CTPLS/CN13/RB13 (io), 17 CVREF/AN10/C3INB/RTCC/SDI1/C1OUT/OCFA/CTED5/INT1/CN12/RB14 (io), 18 AN9/C3INA/SCL2/T3CK/T2CK/REFO/~{SS1}/CTED6/CN11/RB15 (io), 19 VSS/AVSS (power), 20 VDD/AVDD (power)

## PIC24F32KA301-I/SO
designator U?
16-Bit Flash Microcontroller with XLP Technology, 32KB Flash, 2KB SRAM, 20-Pin SOIC, Industrial Temperature; Manufacturer: Microchip; PartNumber: PIC24F32KA301-I/SO; DatasheetVersion: revB, Apr-2011; PackageVersion: revBB, Aug-2009; PackageReference: SOIC-SO20; PackageDescription: 20-Lead Plastic Small Outline (SO) - Wide 7.50mm Body [SOIC]; Supplier 1: Digi-Key; Supplier Part Number 1: PIC24F32KA301-I/SO-ND; Supplier 2: Mouser; Supplier Part Number 2: 579-PIC24F32KA301ISO; Mounting Technology: Surface Mount; Code_JEDEC: MS-013-AC; Code_IPC: SOIC127P1030-20; ComponentLink1Description: Manufacturer URL; ComponentLink1URL: http://www.microchip.com/; ComponentLink2Description: Datasheet; ComponentLink2URL: http://ww1.microchip.com/downloads/en/DeviceDoc/39995_b.pdf; ComponentLink3Description: Package Specification; ComponentLink3URL: http://www.microchip.com/stellent/groups/techpub_sg/documents/packagingspec/en012702.pdf
footprint SOIC-SO20_N (SOIC, 20-Leads, Body 12.8x7.5mm, Pitch 1.27mm, IPC Medium Density)
footprint SOIC-SO20_L (SOIC, 20-Leads, Body 12.8x7.5mm, Pitch 1.27mm, IPC High Density)
footprint SOIC-SO20_M (SOIC, 20-Leads, Body 12.8x7.5mm, Pitch 1.27mm, IPC Low Density)
pins: 1 ~{MCLR}/VPP/RA5 (io), 2 PGEC2/VREF+/CVREF+/AN0/C3INC/SCK2/CN2/RA0 (io), 3 PGED2/CVREF-/VREF-/AN1/SDO2/CN3/RA1 (io), 4 PGED1/AN2/ULPWU/CTCMP/C1IND/C2INB/C3IND/U2TX/SDI2/OC2/CN4/RB0 (io), 5 PGEC1/AN3/C1INC/C2INA/U2RX/OC3/CTED12/CN5/RB1 (io), 6 AN4/SDA2/T5CK/T4CK/U1RX/CTED13/CN6/RB2 (io), 7 OSCI/AN13/C1INB/C2IND/CLKI/CN30/RA2 (io), 8 OSCO/AN14/C1INA/C2INC/CLKO/CN29/RA3 (io), 9 PGED3/SOSCI/AN15/~{U2RTS}/CN1/RB4 (io), 10 PGEC3/SOSCO/SCLKI/~{U2CTS}/CN0/RA4 (io), 11 U1TX/INT0/CN23/RB7 (io), 12 SCL1/~{U1CTS}/C3OUT/CTED10/CN22/RB8 (io), 13 SDA1/T1CK/~{U1RTS}/IC2/CTED4/CN21/RB9 (io), 14 C2OUT/OC1/IC1/CTED1/INT2/CN8/RA6 (io), 15 AN12/LVDIN/SCK1/SS2/IC3/CTED2/CN14/RB12 (io), 16 AN11/SDO1/OCFB/CTPLS/CN13/RB13 (io), 17 CVREF/AN10/C3INB/RTCC/SDI1/C1OUT/OCFA/CTED5/INT1/CN12/RB14 (io), 18 AN9/C3INA/SCL2/T3CK/T2CK/REFO/~{SS1}/CTED6/CN11/RB15 (io), 19 VSS/AVSS (power), 20 VDD/AVDD (power)

## PIC24F32KA301-I/SS
designator U?
16-Bit Flash Microcontroller with XLP Technology, 32KB Flash, 2KB SRAM, 20-Pin SSOP, Industrial Temperature; Manufacturer: Microchip; PartNumber: PIC24F32KA301-I/SS; DatasheetVersion: revB, Apr-2011; PackageVersion: revBB, Aug-2009; PackageReference: SSOP-SS20; PackageDescription: 20-Lead Plastic Shrink Small Outline (SS) - 5.3mm Body [SSOP]; Supplier 1: Digi-Key; Supplier Part Number 1: PIC24F32KA301-I/SS-ND; Supplier 2: Farnell; Supplier Part Number 2: 1898798; Supplier 3: Newark; Supplier Part Number 3: 79R3594; Supplier 4: Mouser; Supplier Part Number 4: 579-PIC24F32KA301ISS; Mounting Technology: Surface Mount; Code_JEDEC: MO-150; ComponentLink1Description: Manufacturer URL; ComponentLink1URL: http://www.microchip.com/; ComponentLink2Description: Datasheet; ComponentLink2URL: http://ww1.microchip.com/downloads/en/DeviceDoc/39995_b.pdf; ComponentLink3Description: Package Specification; ComponentLink3URL: http://www.microchip.com/stellent/groups/techpub_sg/documents/packagingspec/en012702.pdf
footprint SSOP-SS20_N (SOP, 20-Leads, Body 7.2x5.2mm, Pitch 0.65mm, IPC Medium Density)
footprint SSOP-SS20_L (SOP, 20-Leads, Body 7.2x5.2mm, Pitch 0.65mm, IPC High Density)
footprint SSOP-SS20_M (SOP, 20-Leads, Body 7.2x5.2mm, Pitch 0.65mm, IPC Low Density)
pins: 1 ~{MCLR}/VPP/RA5 (io), 2 PGEC2/VREF+/CVREF+/AN0/C3INC/SCK2/CN2/RA0 (io), 3 PGED2/CVREF-/VREF-/AN1/SDO2/CN3/RA1 (io), 4 PGED1/AN2/ULPWU/CTCMP/C1IND/C2INB/C3IND/U2TX/SDI2/OC2/CN4/RB0 (io), 5 PGEC1/AN3/C1INC/C2INA/U2RX/OC3/CTED12/CN5/RB1 (io), 6 AN4/SDA2/T5CK/T4CK/U1RX/CTED13/CN6/RB2 (io), 7 OSCI/AN13/C1INB/C2IND/CLKI/CN30/RA2 (io), 8 OSCO/AN14/C1INA/C2INC/CLKO/CN29/RA3 (io), 9 PGED3/SOSCI/AN15/~{U2RTS}/CN1/RB4 (io), 10 PGEC3/SOSCO/SCLKI/~{U2CTS}/CN0/RA4 (io), 11 U1TX/INT0/CN23/RB7 (io), 12 SCL1/~{U1CTS}/C3OUT/CTED10/CN22/RB8 (io), 13 SDA1/T1CK/~{U1RTS}/IC2/CTED4/CN21/RB9 (io), 14 C2OUT/OC1/IC1/CTED1/INT2/CN8/RA6 (io), 15 AN12/LVDIN/SCK1/SS2/IC3/CTED2/CN14/RB12 (io), 16 AN11/SDO1/OCFB/CTPLS/CN13/RB13 (io), 17 CVREF/AN10/C3INB/RTCC/SDI1/C1OUT/OCFA/CTED5/INT1/CN12/RB14 (io), 18 AN9/C3INA/SCL2/T3CK/T2CK/REFO/~{SS1}/CTED6/CN11/RB15 (io), 19 VSS/AVSS (power), 20 VDD/AVDD (power)

## PIC24F32KA301T-I/SO
designator U?
16-Bit Flash Microcontroller with XLP Technology, 32KB Flash, 2KB SRAM, 20-Pin SOIC, Industrial Temperature, Tape and Reel; Manufacturer: Microchip; PartNumber: PIC24F32KA301T-I/SO; DatasheetVersion: revB, Apr-2011; PackageVersion: revBB, Aug-2009; PackageReference: SOIC-SO20; PackageDescription: 20-Lead Plastic Small Outline (SO) - Wide 7.50mm Body [SOIC]; Supplier 1: Digi-Key; Supplier Part Number 1: PIC24F32KA301T-I/SO-ND; Supplier 2: Mouser; Supplier Part Number 2: 579-PIC24F32KA301TI; Mounting Technology: Surface Mount; Code_JEDEC: MS-013-AC; Code_IPC: SOIC127P1030-20; ComponentLink1Description: Manufacturer URL; ComponentLink1URL: http://www.microchip.com/; ComponentLink2Description: Datasheet; ComponentLink2URL: http://ww1.microchip.com/downloads/en/DeviceDoc/39995_b.pdf; ComponentLink3Description: Package Specification; ComponentLink3URL: http://www.microchip.com/stellent/groups/techpub_sg/documents/packagingspec/en012702.pdf
footprint SOIC-SO20_N (SOIC, 20-Leads, Body 12.8x7.5mm, Pitch 1.27mm, IPC Medium Density)
footprint SOIC-SO20_L (SOIC, 20-Leads, Body 12.8x7.5mm, Pitch 1.27mm, IPC High Density)
footprint SOIC-SO20_M (SOIC, 20-Leads, Body 12.8x7.5mm, Pitch 1.27mm, IPC Low Density)
pins: 1 ~{MCLR}/VPP/RA5 (io), 2 PGEC2/VREF+/CVREF+/AN0/C3INC/SCK2/CN2/RA0 (io), 3 PGED2/CVREF-/VREF-/AN1/SDO2/CN3/RA1 (io), 4 PGED1/AN2/ULPWU/CTCMP/C1IND/C2INB/C3IND/U2TX/SDI2/OC2/CN4/RB0 (io), 5 PGEC1/AN3/C1INC/C2INA/U2RX/OC3/CTED12/CN5/RB1 (io), 6 AN4/SDA2/T5CK/T4CK/U1RX/CTED13/CN6/RB2 (io), 7 OSCI/AN13/C1INB/C2IND/CLKI/CN30/RA2 (io), 8 OSCO/AN14/C1INA/C2INC/CLKO/CN29/RA3 (io), 9 PGED3/SOSCI/AN15/~{U2RTS}/CN1/RB4 (io), 10 PGEC3/SOSCO/SCLKI/~{U2CTS}/CN0/RA4 (io), 11 U1TX/INT0/CN23/RB7 (io), 12 SCL1/~{U1CTS}/C3OUT/CTED10/CN22/RB8 (io), 13 SDA1/T1CK/~{U1RTS}/IC2/CTED4/CN21/RB9 (io), 14 C2OUT/OC1/IC1/CTED1/INT2/CN8/RA6 (io), 15 AN12/LVDIN/SCK1/SS2/IC3/CTED2/CN14/RB12 (io), 16 AN11/SDO1/OCFB/CTPLS/CN13/RB13 (io), 17 CVREF/AN10/C3INB/RTCC/SDI1/C1OUT/OCFA/CTED5/INT1/CN12/RB14 (io), 18 AN9/C3INA/SCL2/T3CK/T2CK/REFO/~{SS1}/CTED6/CN11/RB15 (io), 19 VSS/AVSS (power), 20 VDD/AVDD (power)

## PIC24F32KA301T-I/SS
designator U?
16-Bit Flash Microcontroller with XLP Technology, 32KB Flash, 2KB SRAM, 20-Pin SSOP, Industrial Temperature, Tape and Reel; Manufacturer: Microchip; PartNumber: PIC24F32KA301T-I/SS; DatasheetVersion: revB, Apr-2011; PackageVersion: revBB, Aug-2009; PackageReference: SSOP-SS20; PackageDescription: 20-Lead Plastic Shrink Small Outline (SS) - 5.3mm Body [SSOP]; Supplier 1: Digi-Key; Supplier Part Number 1: PIC24F32KA301T-I/SS-ND; Supplier 2: Mouser; Supplier Part Number 2: 579-PIC24F32KA301TIS; Mounting Technology: Surface Mount; Code_JEDEC: MO-150; ComponentLink1Description: Manufacturer URL; ComponentLink1URL: http://www.microchip.com/; ComponentLink2Description: Datasheet; ComponentLink2URL: http://ww1.microchip.com/downloads/en/DeviceDoc/39995_b.pdf; ComponentLink3Description: Package Specification; ComponentLink3URL: http://www.microchip.com/stellent/groups/techpub_sg/documents/packagingspec/en012702.pdf
footprint SSOP-SS20_N (SOP, 20-Leads, Body 7.2x5.2mm, Pitch 0.65mm, IPC Medium Density)
footprint SSOP-SS20_L (SOP, 20-Leads, Body 7.2x5.2mm, Pitch 0.65mm, IPC High Density)
footprint SSOP-SS20_M (SOP, 20-Leads, Body 7.2x5.2mm, Pitch 0.65mm, IPC Low Density)
pins: 1 ~{MCLR}/VPP/RA5 (io), 2 PGEC2/VREF+/CVREF+/AN0/C3INC/SCK2/CN2/RA0 (io), 3 PGED2/CVREF-/VREF-/AN1/SDO2/CN3/RA1 (io), 4 PGED1/AN2/ULPWU/CTCMP/C1IND/C2INB/C3IND/U2TX/SDI2/OC2/CN4/RB0 (io), 5 PGEC1/AN3/C1INC/C2INA/U2RX/OC3/CTED12/CN5/RB1 (io), 6 AN4/SDA2/T5CK/T4CK/U1RX/CTED13/CN6/RB2 (io), 7 OSCI/AN13/C1INB/C2IND/CLKI/CN30/RA2 (io), 8 OSCO/AN14/C1INA/C2INC/CLKO/CN29/RA3 (io), 9 PGED3/SOSCI/AN15/~{U2RTS}/CN1/RB4 (io), 10 PGEC3/SOSCO/SCLKI/~{U2CTS}/CN0/RA4 (io), 11 U1TX/INT0/CN23/RB7 (io), 12 SCL1/~{U1CTS}/C3OUT/CTED10/CN22/RB8 (io), 13 SDA1/T1CK/~{U1RTS}/IC2/CTED4/CN21/RB9 (io), 14 C2OUT/OC1/IC1/CTED1/INT2/CN8/RA6 (io), 15 AN12/LVDIN/SCK1/SS2/IC3/CTED2/CN14/RB12 (io), 16 AN11/SDO1/OCFB/CTPLS/CN13/RB13 (io), 17 CVREF/AN10/C3INB/RTCC/SDI1/C1OUT/OCFA/CTED5/INT1/CN12/RB14 (io), 18 AN9/C3INA/SCL2/T3CK/T2CK/REFO/~{SS1}/CTED6/CN11/RB15 (io), 19 VSS/AVSS (power), 20 VDD/AVDD (power)

## PIC24F32KA302-E/ML
designator U?
General Purpose, 16-Bit Flash Microcontroller with XLP Technology, 16 MIPS, 24 I/O, -40 to 125 degC, 28-pin QFN (ML28), Tube; Manufacturer: Microchip; PartNumber: PIC24F32KA302-E/ML; DatasheetVersion: Rev. C; PackageVersion: C04-105C; PackageReference: QFN-ML28; PackageDescription: 28-Lead Plastic Quad Flat, 6 x 6 mm Body, 0.65 mm Pitch; Supplier 1: Digi-Key; Supplier Part Number 1: PIC24F32KA302-E/ML-ND; Supplier 2: Newark; Supplier Part Number 2: 82R4425; Supplier 3: Mouser; Supplier Part Number 3: 579-PIC24F32KA302EML; Mounting Technology: Surface Mount; ComponentLink1Description: Manufacturer URL; ComponentLink1URL: http://www.microchip.com; ComponentLink2Description: Datasheet; ComponentLink2URL: http://ww1.microchip.com/downloads/en/DeviceDoc/39995c.pdf; ComponentLink3Description: Package Specification; ComponentLink3URL: http://www.microchip.com/stellent/groups/techpub_sg/documents/packagingspec/en012702.pdf; ComponentLink4Description: Product URL; ComponentLink4URL: http://www.microchip.com/PIC24F32KA302
footprint MCHP-QFN-ML28_N (QFN, 28-Leads, Body 6x6mm, Pitch 0.65mm, Thermal Pad 3.7x3.7mm, IPC Medium Density)
footprint MCHP-QFN-ML28_L (QFN, 28-Leads, Body 6x6mm, Pitch 0.65mm, Thermal Pad 3.7x3.7mm, IPC High Density)
footprint MCHP-QFN-ML28_M (QFN, 28-Leads, Body 6x6mm, Pitch 0.65mm, Thermal Pad 3.7x3.7mm, IPC Low Density)
pins: 1 PGED1/AN2/ULPWU/CTCMP/C1IND/C2INB/C3IND/U2TX/CN4/RB0 (io), 2 PGEC1/AN3/C1INC/C2INA/U2RX/CTED12/CN5/RB1 (io), 3 AN4/C1INB/C2IND/SDA2/T5CK/T4CK/U1RX/CTED13/CN6/RB2 (io), 4 AN5/C1INA/C2INC/SCL2/CN7/RB3 (io), 5 VSS (power) "Device Digital Ground Return", 6 OSCI/AN13/CLKI/CN30/RA2 (io), 7 OSCO/AN14/CLKO/CN29/RA3 (io), 8 SOSCI/AN15/~{U2RTS}/CN1/RB4 (io), 9 SOSCO/SCLKI/~{U2CTS}/CN0/RA4 (io), 10 VDD (power) "Device Digital Supply Voltage", 11 PGED3/ASDA1/SCK2/CN27/RB5 (io), 12 PGEC3/ASCL1/SDO2/CN24/RB6 (io), 13 U1TX/INT0/CN23/RB7 (io), 14 SCL1/~{U1CTS}/C3OUT/CTED10/CN22/RB8 (io), 15 SDA1/T1CK/~{U1RTS}/IC2/CTED4/CN21/RB9 (io), 16 SDI2/IC1/CTED3/CN9/RA7 (io), 17 C2OUT/OC1/CTED1/INT2/CN8/RA6 (io), 18 PGED2/SDI1/OC3/CTED11/CN16/RB10 (io), 19 PGEC2/SCK1/OC2/CTED9/CN15/RB11 (io), 20 AN12/HLVDIN/~{SS2}/IC3/CTED2/CN14/RB12 (io), 21 AN11/SDO1/OCFB/CTPLS/CN13/RB13 (io), 22 CVREF/AN10/C3INB/RTCC/C1OUT/OCFA/CTED5/INT1/CN12/RB14 (io), 23 AN9/C3INA/T3CK/T2CK/REFO/~{SS1}/CTED6/CN11/RB15 (io), 24 VSS/AVSS (power), 25 VDD/AVDD (power), 26 ~{MCLR}/VPP/RA5 (io), 27 VREF+/CVREF+/AN0/C3INC/CN2/RA0 (io), 28 CVREF-/VREF-/AN1/CN3/RA1 (io), 29 EP (power) "Exposed pad on underside of device is connected to VSS."

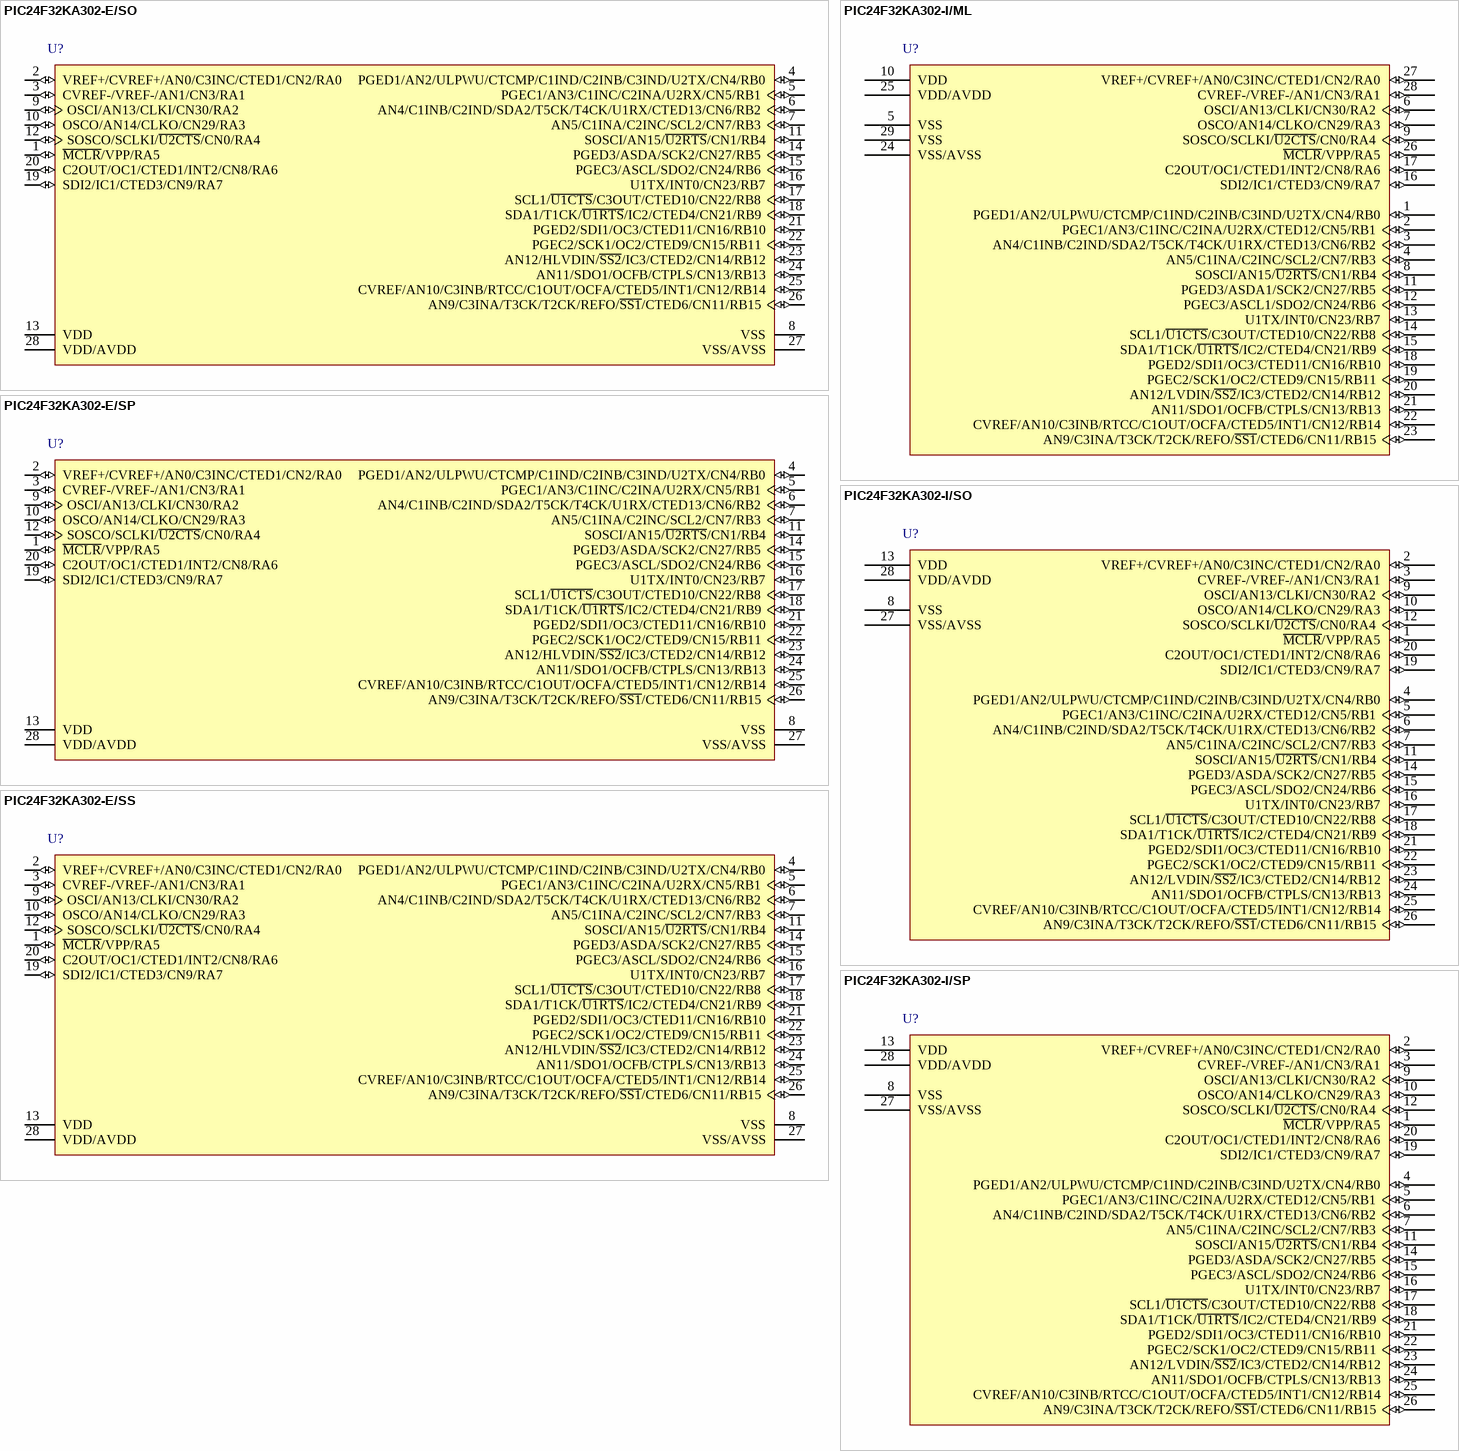
[diagram p18: symbols PIC24F32KA302-E/SO to PIC24F32KA302-I/SP]

## PIC24F32KA302-E/SO
designator U?
General Purpose, 16-Bit Flash Microcontroller with XLP Technology, 16 MIPS, 24 I/O, -40 to 125 degC, 28-pin SOIC (SO28), Tube; Manufacturer: Microchip; PartNumber: PIC24F32KA302-E/SO; DatasheetVersion: Rev. C; PackageVersion: C04-052C; PackageReference: SOIC-SO28; PackageDescription: 28-Lead Plastic Small Outline, 17.9 x 7.5 mm Body, 1.27 mm Pitch; Supplier 1: Digi-Key; Supplier Part Number 1: PIC24F32KA302-E/SO-ND; Supplier 2: Mouser; Supplier Part Number 2: 579-PIC24F32KA302ESO; Mounting Technology: Surface Mount; ComponentLink1Description: Manufacturer URL; ComponentLink1URL: http://www.microchip.com; ComponentLink2Description: Datasheet; ComponentLink2URL: http://ww1.microchip.com/downloads/en/DeviceDoc/39995c.pdf; ComponentLink3Description: Package Specification; ComponentLink3URL: http://www.microchip.com/stellent/groups/techpub_sg/documents/packagingspec/en012702.pdf; ComponentLink4Description: Product URL; ComponentLink4URL: http://www.microchip.com/PIC24F32KA302
footprint MCHP-SOIC-SO28_N (SOIC, 28-Leads, Body 17.9x7.5mm, Pitch 1.27mm, IPC Medium Density)
footprint MCHP-SOIC-SO28_L (SOIC, 28-Leads, Body 17.9x7.5mm, Pitch 1.27mm, IPC High Density)
footprint MCHP-SOIC-SO28_M (SOIC, 28-Leads, Body 17.9x7.5mm, Pitch 1.27mm, IPC Low Density)
pins: 1 ~{MCLR}/VPP/RA5 (io), 2 VREF+/CVREF+/AN0/C3INC/CTED1/CN2/RA0 (io), 3 CVREF-/VREF-/AN1/CN3/RA1 (io), 4 PGED1/AN2/ULPWU/CTCMP/C1IND/C2INB/C3IND/U2TX/CN4/RB0 (io), 5 PGEC1/AN3/C1INC/C2INA/U2RX/CN5/RB1 (io), 6 AN4/C1INB/C2IND/SDA2/T5CK/T4CK/U1RX/CTED13/CN6/RB2 (io), 7 AN5/C1INA/C2INC/SCL2/CN7/RB3 (io), 8 VSS (power), 9 OSCI/AN13/CLKI/CN30/RA2 (io), 10 OSCO/AN14/CLKO/CN29/RA3 (io), 11 SOSCI/AN15/~{U2RTS}/CN1/RB4 (io), 12 SOSCO/SCLKI/~{U2CTS}/CN0/RA4 (io), 13 VDD (power), 14 PGED3/ASDA/SCK2/CN27/RB5 (io), 15 PGEC3/ASCL/SDO2/CN24/RB6 (io), 16 U1TX/INT0/CN23/RB7 (io), 17 SCL1/~{U1CTS}/C3OUT/CTED10/CN22/RB8 (io), 18 SDA1/T1CK/~{U1RTS}/IC2/CTED4/CN21/RB9 (io), 19 SDI2/IC1/CTED3/CN9/RA7 (io), 20 C2OUT/OC1/CTED1/INT2/CN8/RA6 (io), 21 PGED2/SDI1/OC3/CTED11/CN16/RB10 (io), 22 PGEC2/SCK1/OC2/CTED9/CN15/RB11 (io), 23 AN12/HLVDIN/~{SS2}/IC3/CTED2/CN14/RB12 (io), 24 AN11/SDO1/OCFB/CTPLS/CN13/RB13 (io), 25 CVREF/AN10/C3INB/RTCC/C1OUT/OCFA/CTED5/INT1/CN12/RB14 (io), 26 AN9/C3INA/T3CK/T2CK/REFO/~{SS1}/CTED6/CN11/RB15 (io), 27 VSS/AVSS (power), 28 VDD/AVDD (power)

## PIC24F32KA302-E/SP
designator U?
General Purpose, 16-Bit Flash Microcontroller with XLP Technology, 16 MIPS, 24 I/O, -40 to 125 degC, 28-pin SPDIP (SP28), Tube; Manufacturer: Microchip; PartNumber: PIC24F32KA302-E/SP; DatasheetVersion: Rev. C; PackageVersion: C04-070B; PackageReference: SPDIP-SP28; PackageDescription: 28-Lead Plastic Dual In-Line, 34.86 x 6.79 mm Body, 2.54 mm Pitch; Supplier 1: Digi-Key; Supplier Part Number 1: PIC24F32KA302-E/SP-ND; Supplier 2: Newark; Supplier Part Number 2: 82R4427; Supplier 3: Mouser; Supplier Part Number 3: 579-PIC24F32KA302ESP; Mounting Technology: Through Hole; ComponentLink1Description: Manufacturer URL; ComponentLink1URL: http://www.microchip.com; ComponentLink2Description: Datasheet; ComponentLink2URL: http://ww1.microchip.com/downloads/en/DeviceDoc/39995c.pdf; ComponentLink3Description: Package Specification; ComponentLink3URL: http://www.microchip.com/stellent/groups/techpub_sg/documents/packagingspec/en012702.pdf; ComponentLink4Description: Product URL; ComponentLink4URL: http://www.microchip.com/PIC24F32KA302
footprint MCHP-SPDIP-SP28 (DIP, 28-Leads, Body 34.86x6.79mm, Pitch 2.54mm)
pins: 1 ~{MCLR}/VPP/RA5 (io), 2 VREF+/CVREF+/AN0/C3INC/CTED1/CN2/RA0 (io), 3 CVREF-/VREF-/AN1/CN3/RA1 (io), 4 PGED1/AN2/ULPWU/CTCMP/C1IND/C2INB/C3IND/U2TX/CN4/RB0 (io), 5 PGEC1/AN3/C1INC/C2INA/U2RX/CN5/RB1 (io), 6 AN4/C1INB/C2IND/SDA2/T5CK/T4CK/U1RX/CTED13/CN6/RB2 (io), 7 AN5/C1INA/C2INC/SCL2/CN7/RB3 (io), 8 VSS (power), 9 OSCI/AN13/CLKI/CN30/RA2 (io), 10 OSCO/AN14/CLKO/CN29/RA3 (io), 11 SOSCI/AN15/~{U2RTS}/CN1/RB4 (io), 12 SOSCO/SCLKI/~{U2CTS}/CN0/RA4 (io), 13 VDD (power), 14 PGED3/ASDA/SCK2/CN27/RB5 (io), 15 PGEC3/ASCL/SDO2/CN24/RB6 (io), 16 U1TX/INT0/CN23/RB7 (io), 17 SCL1/~{U1CTS}/C3OUT/CTED10/CN22/RB8 (io), 18 SDA1/T1CK/~{U1RTS}/IC2/CTED4/CN21/RB9 (io), 19 SDI2/IC1/CTED3/CN9/RA7 (io), 20 C2OUT/OC1/CTED1/INT2/CN8/RA6 (io), 21 PGED2/SDI1/OC3/CTED11/CN16/RB10 (io), 22 PGEC2/SCK1/OC2/CTED9/CN15/RB11 (io), 23 AN12/HLVDIN/~{SS2}/IC3/CTED2/CN14/RB12 (io), 24 AN11/SDO1/OCFB/CTPLS/CN13/RB13 (io), 25 CVREF/AN10/C3INB/RTCC/C1OUT/OCFA/CTED5/INT1/CN12/RB14 (io), 26 AN9/C3INA/T3CK/T2CK/REFO/~{SS1}/CTED6/CN11/RB15 (io), 27 VSS/AVSS (power), 28 VDD/AVDD (power)

## PIC24F32KA302-E/SS
designator U?
General Purpose, 16-Bit Flash Microcontroller with XLP Technology, 16 MIPS, 24 I/O, -40 to 125 degC, 28-pin SSOP (SS28), Tube; Manufacturer: Microchip; PartNumber: PIC24F32KA302-E/SS; DatasheetVersion: Rev. C; PackageVersion: C04-073B; PackageReference: SSOP-SS28; PackageDescription: 28-Lead Plastic Shrink Small Outline, 10.2 x 5.3 mm Body, 0.65 mm Pitch; Supplier 1: Digi-Key; Supplier Part Number 1: PIC24F32KA302-E/SS-ND; Supplier 2: Mouser; Supplier Part Number 2: 579-PIC24F32KA302ESS; Mounting Technology: Surface Mount; ComponentLink1Description: Manufacturer URL; ComponentLink1URL: http://www.microchip.com; ComponentLink2Description: Datasheet; ComponentLink2URL: http://ww1.microchip.com/downloads/en/DeviceDoc/39995c.pdf; ComponentLink3Description: Package Specification; ComponentLink3URL: http://www.microchip.com/stellent/groups/techpub_sg/documents/packagingspec/en012702.pdf; ComponentLink4Description: Product URL; ComponentLink4URL: http://www.microchip.com/PIC24F32KA302
footprint MCHP-SSOP-SS28_N (SOP, 28-Leads, Body 10.2x5.3mm, Pitch 0.65mm, IPC Medium Density)
footprint MCHP-SSOP-SS28_L (SOP, 28-Leads, Body 10.2x5.3mm, Pitch 0.65mm, IPC High Density)
footprint MCHP-SSOP-SS28_M (SOP, 28-Leads, Body 10.2x5.3mm, Pitch 0.65mm, IPC Low Density)
pins: 1 ~{MCLR}/VPP/RA5 (io), 2 VREF+/CVREF+/AN0/C3INC/CTED1/CN2/RA0 (io), 3 CVREF-/VREF-/AN1/CN3/RA1 (io), 4 PGED1/AN2/ULPWU/CTCMP/C1IND/C2INB/C3IND/U2TX/CN4/RB0 (io), 5 PGEC1/AN3/C1INC/C2INA/U2RX/CN5/RB1 (io), 6 AN4/C1INB/C2IND/SDA2/T5CK/T4CK/U1RX/CTED13/CN6/RB2 (io), 7 AN5/C1INA/C2INC/SCL2/CN7/RB3 (io), 8 VSS (power), 9 OSCI/AN13/CLKI/CN30/RA2 (io), 10 OSCO/AN14/CLKO/CN29/RA3 (io), 11 SOSCI/AN15/~{U2RTS}/CN1/RB4 (io), 12 SOSCO/SCLKI/~{U2CTS}/CN0/RA4 (io), 13 VDD (power), 14 PGED3/ASDA/SCK2/CN27/RB5 (io), 15 PGEC3/ASCL/SDO2/CN24/RB6 (io), 16 U1TX/INT0/CN23/RB7 (io), 17 SCL1/~{U1CTS}/C3OUT/CTED10/CN22/RB8 (io), 18 SDA1/T1CK/~{U1RTS}/IC2/CTED4/CN21/RB9 (io), 19 SDI2/IC1/CTED3/CN9/RA7 (io), 20 C2OUT/OC1/CTED1/INT2/CN8/RA6 (io), 21 PGED2/SDI1/OC3/CTED11/CN16/RB10 (io), 22 PGEC2/SCK1/OC2/CTED9/CN15/RB11 (io), 23 AN12/HLVDIN/~{SS2}/IC3/CTED2/CN14/RB12 (io), 24 AN11/SDO1/OCFB/CTPLS/CN13/RB13 (io), 25 CVREF/AN10/C3INB/RTCC/C1OUT/OCFA/CTED5/INT1/CN12/RB14 (io), 26 AN9/C3INA/T3CK/T2CK/REFO/~{SS1}/CTED6/CN11/RB15 (io), 27 VSS/AVSS (power), 28 VDD/AVDD (power)

## PIC24F32KA302-I/ML
designator U?
16-Bit Flash Microcontroller with XLP Technology, 32KB Flash, 2KB SRAM, 28-Pin QFN, Industrial Temperature; Manufacturer: Microchip; PartNumber: PIC24F32KA302-I/ML; DatasheetVersion: revB, Apr-2011; PackageVersion: revBB, Aug-2009; PackageReference: QFN-ML28; PackageDescription: 28-Lead Plastic Quad Flat, No Lead Package (ML) - 6x6 mm Body [QFN] with 0.55 mm Contact Length; Supplier 1: Digi-Key; Supplier Part Number 1: PIC24F32KA302-I/ML-ND; Supplier 2: Farnell; Supplier Part Number 2: 1898799; Supplier 3: Newark; Supplier Part Number 3: 79R3597; Supplier 4: Mouser; Supplier Part Number 4: 579-PIC24F32KA302IML; Mounting Technology: Surface Mount; Code_JEDEC: MO-220; ComponentLink1Description: Manufacturer URL; ComponentLink1URL: http://www.microchip.com/; ComponentLink2Description: Datasheet; ComponentLink2URL: http://ww1.microchip.com/downloads/en/DeviceDoc/39995_b.pdf; ComponentLink3Description: Package Specification; ComponentLink3URL: http://www.microchip.com/stellent/groups/techpub_sg/documents/packagingspec/en012702.pdf
footprint QFN-ML28_N (QFN, 28-Leads, Body 6x6mm, Pitch 0.65mm, Thermal Pad 4.2x4.2mm, IPC Medium Density)
footprint QFN-ML28_L (QFN, 28-Leads, Body 6x6mm, Pitch 0.65mm, Thermal Pad 4.2x4.2mm, IPC High Density)
footprint QFN-ML28_M (QFN, 28-Leads, Body 6x6mm, Pitch 0.65mm, Thermal Pad 4.2x4.2mm, IPC Low Density)
pins: 1 PGED1/AN2/ULPWU/CTCMP/C1IND/C2INB/C3IND/U2TX/CN4/RB0 (io), 2 PGEC1/AN3/C1INC/C2INA/U2RX/CTED12/CN5/RB1 (io), 3 AN4/C1INB/C2IND/SDA2/T5CK/T4CK/U1RX/CTED13/CN6/RB2 (io), 4 AN5/C1INA/C2INC/SCL2/CN7/RB3 (io), 5 VSS (power), 6 OSCI/AN13/CLKI/CN30/RA2 (io), 7 OSCO/AN14/CLKO/CN29/RA3 (io), 8 SOSCI/AN15/~{U2RTS}/CN1/RB4 (io), 9 SOSCO/SCLKI/~{U2CTS}/CN0/RA4 (io), 10 VDD (power), 11 PGED3/ASDA1/SCK2/CN27/RB5 (io), 12 PGEC3/ASCL1/SDO2/CN24/RB6 (io), 13 U1TX/INT0/CN23/RB7 (io), 14 SCL1/~{U1CTS}/C3OUT/CTED10/CN22/RB8 (io), 15 SDA1/T1CK/~{U1RTS}/IC2/CTED4/CN21/RB9 (io), 16 SDI2/IC1/CTED3/CN9/RA7 (io), 17 C2OUT/OC1/CTED1/INT2/CN8/RA6 (io), 18 PGED2/SDI1/OC3/CTED11/CN16/RB10 (io), 19 PGEC2/SCK1/OC2/CTED9/CN15/RB11 (io), 20 AN12/LVDIN/~{SS2}/IC3/CTED2/CN14/RB12 (io), 21 AN11/SDO1/OCFB/CTPLS/CN13/RB13 (io), 22 CVREF/AN10/C3INB/RTCC/C1OUT/OCFA/CTED5/INT1/CN12/RB14 (io), 23 AN9/C3INA/T3CK/T2CK/REFO/~{SS1}/CTED6/CN11/RB15 (io), 24 VSS/AVSS (power), 25 VDD/AVDD (power), 26 ~{MCLR}/VPP/RA5 (io), 27 VREF+/CVREF+/AN0/C3INC/CTED1/CN2/RA0 (io), 28 CVREF-/VREF-/AN1/CN3/RA1 (io), 29 VSS (power)